# Altium schematic symbol library LL.SCHLIB: 121 symbols (part 2 of 3)
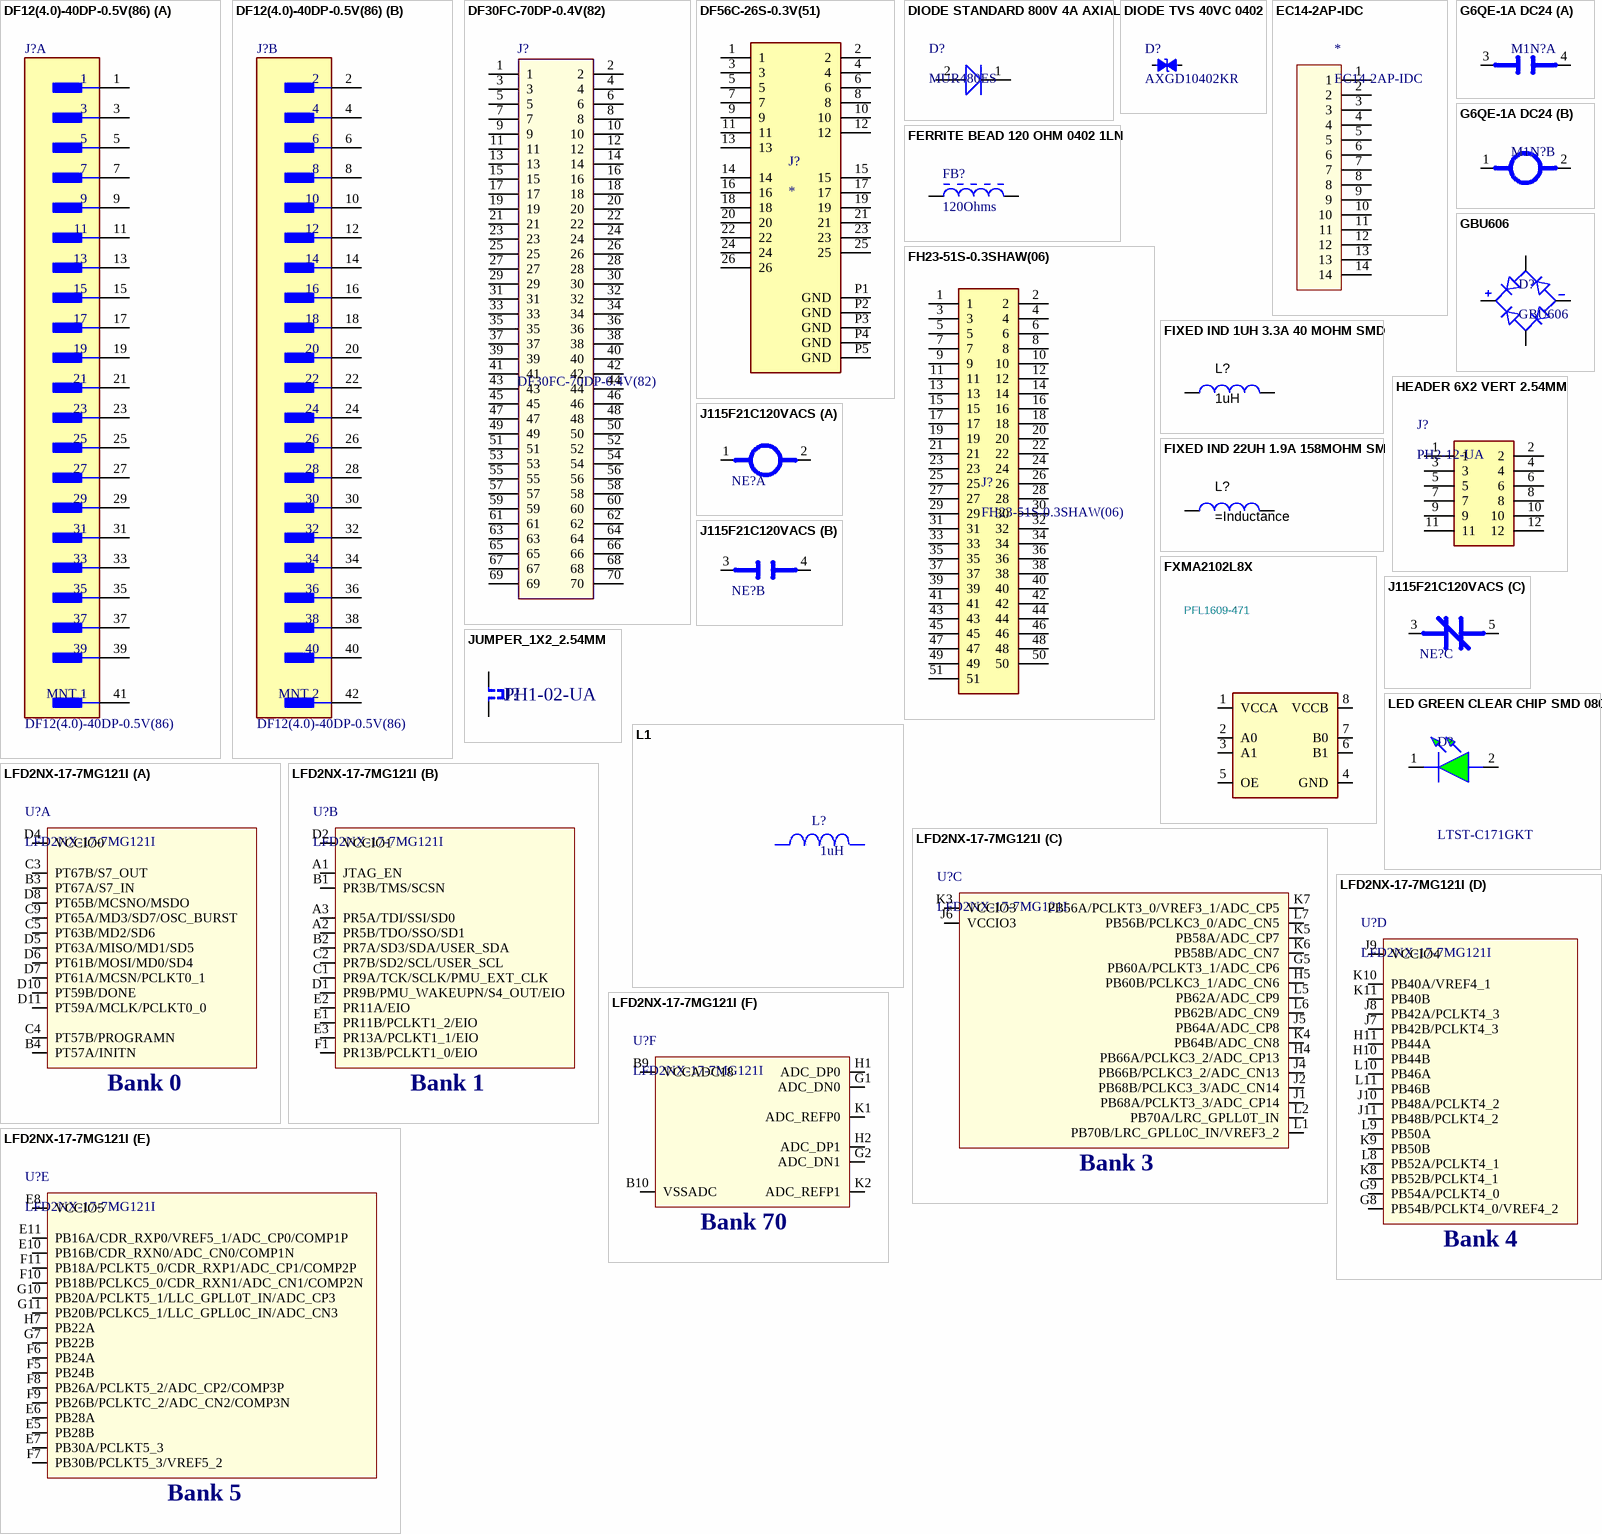
[diagram p8: symbols DF12(4.0)-40DP-0.5V(86) to LFD2NX-17-7MG121I]

## DF12(4.0)-40DP-0.5V(86)
designator J?
CONN HDR 40POS SMD GOLD; Gender: Male; Mated Stacking Heights: 4mm; Max Voltage Rating (AC): 50V; Row Spacing: 2.45mm; Number of Positions: 40; Current Rating: 300mA; Contact Resistance: 50mR; Pitch: 0.5mm; Package Quantity: 1; Housing Material: Polyamide; Lead Free: Lead Free; Packaging: Tape and Reel; Radiation Hardening: No; Orientation: Straight; Insulation Material: Nylon; Contact Material: Copper; Stack Height: 4mm; Max Operating Temperature: 125°C; Voltage Rating: 50V; Length: 13mm; Min Operating Temperature: -45°C; Mount: Surface Mount; Number of Rows: 2; Depth: 3.8mm; Contact Plating: Gold; Housing Color: Beige; REACH SVHC: No SVHC; Termination: Solder; Max Current Rating: 300mA; Number of Contacts: 40; Flammability Rating: UL94 V-0
footprint DF124040DP05V86
part A pins: 1, 3, 5, 7, 9, 11, 13, 15, 17, 19, 21, 23, 25, 27, 29, 31, 33, 35, 37, 39, 41 MNT 1
part B pins: 2, 4, 6, 8, 10, 12, 14, 16, 18, 20, 22, 24, 26, 28, 30, 32, 34, 36, 38, 40, 42 MNT 2

## DF30FC-70DP-0.4V(82)
designator J?
CONN HDR 70POS SMD GOLD; Manufacturer: Hirose Electric Co Ltd; Geometry.Height: 0.8mm; Manufacturer Part Number: DF30FC-70DP-0.4V(82); Digi-Key Part Number: DF30FC-70DP-0.4V(82)-ND; Mouser Price/Stock: https://www.mouser.com/Search/Refine.aspx?Keyword=798-DF30FC40DP0.4V82; Arrow Part Number: *; Arrow Price/Stock: *; Datasheet Link: https://eu.mouser.com/datasheet/2/185/e68410340-1168193.pdf
footprint DF30FC70DP04V82
pins: 1, 2, 3, 4, 5, 6, 7, 8, 9, 10, 11, 12, 13, 14, 15, 16, 17, 18, 19, 20, 21, 22, 23, 24, 25, 26, 27, 28, 29, 30, 31, 32, 33, 34, 35, 36, 37, 38, 39, 40, 41, 42, 43, 44, 45, 46, 47, 48, 49, 50, 51, 52, 53, 54, 55, 56, 57, 58, 59, 60, 61, 62, 63, 64, 65, 66, 67, 68, 69, 70

## DF56C-26S-0.3V(51)
designator J?
CONN RCPT 26POS 0.012 GOLD SMD; Manufacturer: Hirose Electric Co Ltd; Manufacturer Part Number: DF56C-26S-0.3V(51); Package: None; Digi-Key Part Number: DF56C-26S-0.3V(51)-ND; Availability: Unavailable
footprint DF56C-26S-0.3V(51)
pins: 1, 2, 3, 4, 5, 6, 7, 8, 9, 10, 11, 12, 13, 14, 15, 16, 17, 18, 19, 20, 21, 22, 23, 24, 25, 26, P1 GND (power), P2 GND (power), P3 GND (power), P4 GND (power), P5 GND (power)

## DIODE STANDARD 800V 4A AXIAL
designator D?, comment MUR480ES
DIODE STANDARD 800V 4A AXIAL; Manufacturer: onsemi; Manufacturer Part Number: MUR480ES; Supplier Part Number 1: 2156-MUR480ES-ND; Supplier 1: Digi-Key; Package: DO-201AA
footprint DIODE_DO-201AA
pins: 1, 2

## DIODE TVS 40VC 0402
designator D?, comment AXGD10402KR
ESD Suppressor Diode TVS Bi-Dir 24V Automotive 2-Pin Case 0402(1006Metric) T/R; Manufacturer: Littelfuse; Number of Bidirectional Channels: 1; Power Line Protection: No; Diode Type: ZENER; Supplier 1: Digikey; Supplier Part Number 1: F10019CT-ND; Manufacturer Part Number: AXGD10402KR; RoHS: Yes; Category: TVS Diodes; Stock: 44275; Pricing: 1=0.49, 10=0.356, 100=0.242, 500=0.19, 1000=0.152, 2000=0.146, 5000=0.14 (USD); Mounting Technology: Surface Mount; Case/Package: 0402; Case Code (Imperial): 0402; Case Code (Metric): 1005; Min Operating Temperature: -65°C; Max Operating Temperature: 125°C; Packaging: Cut Tape; Series: Automotive, AEC-Q200, XTREME-GUARD™; RoHS Compliant: Yes; ComponentLink1URL: https://media.digikey.com/pdf/Data%20Sheets/Littelfuse%20PDFs/AXGD1_Series.pdf?src-supplier=Digikey; ComponentLink1Description: https://media.digikey.com/pdf/Data%20Sheets/Littelfuse%20PDFs/AXGD1_Series.pdf?src-supplier=Digikey; ComponentLink2URL: https://datasheet.octopart.com/AXGD10402KR-Littelfuse-datasheet-102879905.pdf?src-supplier=Element14; ComponentLink2Description: https://datasheet.octopart.com/AXGD10402KR-Littelfuse-datasheet-102879905.pdf?src-supplier=Element14; ComponentLink3URL: https://datasheet.octopart.com/AXGD10402KR-Littelfuse-datasheet-170671804.pdf?src-supplier=Future+Electronics; ComponentLink3Description: https://datasheet.octopart.com/AXGD10402KR-Littelfuse-datasheet-170671804.pdf?src-supplier=Future+Electronics
footprint D_0402_1005Metric
pins: 1 C, 2 A

## EC14-2AP-IDC
designator *
Manufacturer: TAG-CONNECT; Manufacturer Part Number: EC14-2AP-IDC
footprint EC14-2AP
pins: 1, 2, 3, 4, 5, 6, 7, 8, 9, 10, 11, 12, 13, 14

## FERRITE BEAD 120 OHM 0402 1LN
designator FB?, comment 120Ohms
FERRITE BEAD 120 OHM 0402 1LN; Manufacturer Part Number: BLM15AG121SN1D; Manufacturer: Murata Electronics; Supplier Part Number 1: 490-1005-2-ND; Package: 0402; Value: 120Ohms; Supplier 1: Digi-Key; Height: 0.55mm; ComponentLink1Description: New link; ComponentLink1URL: *
footprint 0402_FB (Resistor, Chip; 1.00 mm L X 0.50 mm W X 0.40 mm H body)
pins: 1, 2

## FH23-51S-0.3SHAW(06)
designator J?
CONN FPC BOTTOM 51POS 0.30MM R/A; Manufacturer: Hirose Electric Co Ltd; Value: FH23-51S-0.3SHAW(06); Manufacturer Product Number: FH23-51S-0.3SHAW(06); Package: None; Price: None; Digi-Key Part Number: HFQ551TR-ND; Availability: Unavailable
footprint HRS_FH23-51S-0.3SHAW(06)
pins: 1, 2, 3, 4, 5, 6, 7, 8, 9, 10, 11, 12, 13, 14, 15, 16, 17, 18, 19, 20, 21, 22, 23, 24, 25, 26, 27, 28, 29, 30, 31, 32, 33, 34, 35, 36, 37, 38, 39, 40, 41, 42, 43, 44, 45, 46, 47, 48, 49, 50, 51

## FIXED IND 1UH 3.3A 40 MOHM SMD
designator L?, comment 1uH
Inductor Power Chip Shielded Wirewound 1uH 20% 1MHz Metal 3.3A 0.04Ohm DCR 1008 T/R; Manufacturer: Murata; Manufacturer Part Number: DFE252012F-1R0M=P2; Core Material: Ferrite; Saturation Current: 5.3A; DC Resistance (DCR): 40mR; Supplier 1: Digi-Key; RoHS: Yes; Category: Fixed Inductors; Stock 1: 280963; Pricing 1: 1=0.35000, 10=0.31500, 25=0.27560, 50=0.23640, 100=0.21660, 250=0.19696, 500=0.18514, 1000=0.14180 (USD); Mount: Surface Mount; Case/Package: 1008; Case Code (Metric): 2520; Case Code (Imperial): 1008; Min Operating Temperature: -40°C; Max Operating Temperature: 125°C; Packaging: Tape and Reel; Inductance: 1uH; Current Rating: 3.3A; Shielding: Shielded; Test Frequency: 1MHz; Tolerance: 20%; Length: 0.098inch; Width: 0.079inch; Height - Seated (Max): 0.047inch; RoHS Compliant: Yes; ComponentLink1URL: http://www.farnell.com/datasheets/2616788.pdf?src-supplier=Farnell; ComponentLink1Description: http://www.farnell.com/datasheets/2616788.pdf?src-supplier=Farnell; ComponentLink2URL: https://www.murata.com/~/media/webrenewal/products/inductor/chip/tokoproducts/wirewoundmetalalloychiptype/m_dfe252012f.ashx?src-supplier=Digi-Key; ComponentLink2Description: https://www.murata.com/~/media/webrenewal/products/inductor/chip/tokoproducts/wirewoundmetalalloychiptype/m_dfe252012f.ashx?src-supplier=Digi-Key; Supplier Part Number 1: 490-13053-1-ND
footprint DFE252012P (TOKO, Pad sizes increased as per request)
pins: 1, 2

## FIXED IND 22UH 1.9A 158MOHM SM
designator L?
Power Inductor, shielded, ferrite core, 20% tol, SMT, RoHS; Manufacturer: Coilcraft; Manufacturer Part Number: MSS6132T-223MLC; Supplier 1: Mouser; Supplier Part Number 1: 994-MSS6132T-223MLC; RoHS: Yes; Category: Fixed Inductors; Stock: 1738; Pricing: 1=2.13, 10=2.13, 50=2.13, 100=2.13, 1000=0.854, 10000=0.837 (USD); RoHS Compliant: Yes; ComponentLink1URL: https://datasheet.octopart.com/MSS6132T-223MLC-Coilcraft-datasheet-96966862.pdf?src-supplier=Coilcraft+Direct; ComponentLink1Description: https://datasheet.octopart.com/MSS6132T-223MLC-Coilcraft-datasheet-96966862.pdf?src-supplier=Coilcraft+Direct
footprint IND_MSS6132T
pins: 1, 2

## FXMA2102L8X
designator PFL1609-471  (value not drawn)
Dual Supply 2-Bit Voltage Translator/Buffer/Repeater Isolator for I2C Applications; Manufacturer: ON Semiconductor / Fairchild; Max Supply Voltage: 5.5V; Min Supply Voltage: 1.65V; Max Power Dissipation: 129mW; Propagation Delay: 1ns; Logic Function: Translator,Buffer; Turn-On Delay Time: 105ns; Low Level Output Current: 6mA; Quiescent Current: 5uA; Frequency: 50MHz; Supply Current: 2uA; Channel Type: Bidirectional; Number of Circuits: 1; Number of Inputs: 2; Supplier: Digikey; Supplier Part Number: FXMA2102L8XCT-ND; Manufacturer Part Number: FXMA2102L8X; RoHS: Yes; Category: Voltage Level Shifters; Stock: 16911; Pricing: 1=0.56, 10=0.479, 25=0.4468, 100=0.3319, 250=0.28088, 500=0.2681, 1000=0.19788, 2500=0.18511, 5000=0.17235, 10000=0.16341, 25000=0.15958, 50000=0.158 (USD); Mounting Technology: Surface Mount; Pins: 8; Weight: 0.025g; Min Operating Temperature: -40°C; Max Operating Temperature: 85°C; Package Quantity: 5000; Series: -; Packaging: Tape and Reel; Number of Outputs: 2; Length: 1.6mm; Width: 1.6mm; Height: 0.5mm; Radiation Hardening: No; Reach SVHC Compliant: No; Lead Free: Lead Free; RoHS Compliant: Yes; ComponentLink1URL: https://datasheet.ciiva.com/1783/fxma2102-1783376.pdf?src-supplier=Digikey; ComponentLink1Description: https://datasheet.ciiva.com/1783/fxma2102-1783376.pdf?src-supplier=Digikey; ComponentLink2URL: https://datasheet.ciiva.com/15096/getdatasheetpartid-491938-15096320.pdf?src-supplier=Verical; ComponentLink2Description: https://datasheet.ciiva.com/15096/getdatasheetpartid-491938-15096320.pdf?src-supplier=Verical; ComponentLink3URL: https://datasheet.ciiva.com/25628/0900766b810e24fb-25628683.pdf?src-supplier=Rs; ComponentLink3Description: https://datasheet.ciiva.com/25628/0900766b810e24fb-25628683.pdf?src-supplier=Rs; ComponentLink4URL: https://datasheet.ciiva.com/1783/fxma2102-1783375.pdf?src-supplier=Digikey; ComponentLink4Description: https://datasheet.ciiva.com/1783/fxma2102-1783375.pdf?src-supplier=Digikey; ComponentLink5URL: https://datasheet.ciiva.com/1783/fxma2102-1783377.pdf?src-supplier=Digikey; ComponentLink5Description: https://datasheet.ciiva.com/1783/fxma2102-1783377.pdf?src-supplier=Digikey; ComponentLink6URL: https://datasheet.ciiva.com/4834/fxma2102-86942-4834055.pdf?src-supplier=Mouser; ComponentLink6Description: https://datasheet.ciiva.com/4834/fxma2102-86942-4834055.pdf?src-supplier=Mouser; ComponentLink7URL: https://datasheet.ciiva.com/48702/001252902-da-01-en-translator-buff-re-fxma2102l8x-mlp-8-fsc-48702053.pdf?src-supplier=Conrad; ComponentLink7Description: https://datasheet.ciiva.com/48702/001252902-da-01-en-translator-buff-re-fxma2102l8x-mlp-8-fsc-48702053.pdf?src-supplier=Conrad
footprint MICROPAK_FXMA2102L8X
pins: 1 VCCA, 2 A0, 3 A1, 4 GND, 5 OE, 6 B1, 7 B0, 8 VCCB

## G6QE-1A DC24
designator M1N?  (value not drawn)
RELAY PWR PCB SPST-NO 32A 24VDC; Manufacturer: Omron; Copyright: Copyright (C) 2022 Ultra Librarian. All rights reserved.; Manufacturer Part Number: G6QE-1A DC24; Supplier Part Number 1: 653-G6QE-1ADC24; Supplier 1: Mouser; Type: DEV
footprint RELAY_G6QE-1A_OMR
part A pins: 3, 4
part B pins: 1, 2

## GBU606
designator D?
Diode Rectifier Bridge Single 600V 6A 4-Pin Case GBU Tube; Manufacturer: Diodes; Max Reverse Current: 5uA; Max Surge Current: 175A; Forward Voltage: 1V; Number of Elements: 1; Reverse Voltage (DC): 420V; Supplier 1: Digikey; Supplier Part Number 1: GBU606DI-ND; Manufacturer Part Number: GBU606; RoHS: Yes; Category: Rectifier Diodes; Stock: 45121; Pricing: 1=1.31, 20=0.7325, 100=0.6094 (USD); Mounting Technology: Through Hole; Pins: 4; Weight: 0.120073oz; Min Operating Temperature: -55°C; Max Operating Temperature: 150°C; Packaging: Rail/Tube; Forward Current: 6A; Max Repetitive Reverse Voltage (Vrrm): 600V; Package Quantity: 20; Average Rectified Current: 6A; Series: -; Peak Non-Repetitive Surge Current: 175A; Termination: Through Hole; Length: 22.3mm; Width: 3.56mm; Height: 18.8mm; Radiation Hardening: No; RoHS Compliant: Yes; Lead Free: Lead Free; ComponentLink1URL: https://datasheet.ciiva.com/886/ds21226-886825.pdf?src-supplier=Digikey; ComponentLink1Description: https://datasheet.ciiva.com/886/ds21226-886825.pdf?src-supplier=Digikey; ComponentLink2URL: https://datasheet.ciiva.com/11196/ds21226-11196296.pdf?src-supplier=Avnet; ComponentLink2Description: https://datasheet.ciiva.com/11196/ds21226-11196296.pdf?src-supplier=Avnet; ComponentLink3URL: https://datasheet.ciiva.com/16467/ds21226-16467529.pdf?src-supplier=Future+Electronics; ComponentLink3Description: https://datasheet.ciiva.com/16467/ds21226-16467529.pdf?src-supplier=Future+Electronics
footprint SIP343W114P508L2205H2134Q4
pins: AC1, AC2, NEG, POS

## HEADER 6X2 VERT 2.54MM
designator J?, comment PH2-12-UA
Conn Unshrouded Header HDR 12 POS 2.54mm Solder ST Top Entry Thru-Hole Bag; Manufacturer: Adam Equipment; Supplier 1: Digikey; Supplier Part Number 1: 2057-PH2-12-UA-ND; Manufacturer Part Number: PH2-12-UA; RoHS: No; Category: Headers and Wire Housings; Stock: 19464; Pricing: 1=0.16, 10=0.129, 100=0.1049, 500=0.09092, 1000=0.0855, 5000=0.07412, 10000=0.06971 (USD); Lead Free: Lead Free; ComponentLink1URL: https://datasheet.octopart.com/PH2-12-UA-Adam-Tech-datasheet-12510360.pdf?src-supplier=Future+Electronics; ComponentLink1Description: https://datasheet.octopart.com/PH2-12-UA-Adam-Tech-datasheet-12510360.pdf?src-supplier=Future+Electronics
footprint HDR6X2_VERT_ADAM_PH2-12-UA
pins: 1, 2, 3, 4, 5, 6, 7, 8, 9, 10, 11, 12

## J115F21C120VACS
designator NE?  (value not drawn)
RELAY UL & TUV GEN PURP SPDT 40A; Manufacturer: CIT Relay and Switch; Manufacturer Part Number: J115F21C120VACS; Supplier Part Number 1: 2449-J115F21C120VACS-ND; Supplier 1: Digi-Key; Type: DEV
footprint RELAY_J115F2
part A pins: 1 C1, 2 C2
part B pins: 3 COM, 4 NO
part C pins: 3 COM, 5 NC

## JUMPER_1X2_2.54MM
designator J?, comment PH1-02-UA
Conn Unshrouded Header HDR 2 POS 2.54mm Solder ST Top Entry Thru-Hole Bag; Manufacturer: Adam Tech; Supplier 1: Digikey; Supplier Part Number 1: 2057-PH1-02-UA-ND; Manufacturer Part Number: PH1-02-UA; RoHS: Yes; Stock: 90693; Pricing: 1=0.1, 10=0.023, 100=0.0189, 500=0.0164, 1000=0.01542, 5000=0.01337, 10000=0.01257 (USD); RoHS Compliant: Yes; ComponentLink1URL: https://datasheet.octopart.com/PH1-02-UA-Adam-Tech-datasheet-502038.pdf?src-supplier=Future+Electronics; ComponentLink1Description: https://datasheet.octopart.com/PH1-02-UA-Adam-Tech-datasheet-502038.pdf?src-supplier=Future+Electronics
footprint SIP2
pins: 1, 2

## L1
designator L?, comment 1uH
LQM32PN; Manufacturer: Murata; Manufacturer Part Number: LQM32PN; Value: 1uH; Supplier 1: Mouser
footprint XFL4015
pins: 1, 2

## LED GREEN CLEAR CHIP SMD 0805
designator D?, comment LTST-C171GKT
LED Low-Power Uni-Color Green 565nm 2.1V 2-Pin Chip LED T/R; Manufacturer: Vishay Lite-On; Lens Color: Colorless; Viewing Angle: 130°; Lens Style: Flat,Diffused,Colorless,Rectangular,Clear; Luminous Intensity: 12mcd; Forward Current: 30mA; Power Rating: 100mW; Dominant Wavelength: 569nm; Test Current: 10mA; Lens Transparency: Clear; Number of Elements: 1; Reverse Voltage: 5V; Lens Size: 1.25mm; Supplier 1: Digikey; Supplier Part Number 1: 160-1423-1-ND; Manufacturer Part Number: LTST-C171GKT; RoHS: Yes; Category: LEDs; Stock: 454900; Pricing: 1=0.22, 10=0.121, 100=0.0725, 500=0.0536, 1000=0.04781 (USD); Mounting Technology: Surface Mount; Case/Package: 0805; Pins: 2; Color: Green; Case Code (Metric): 2012; Case Code (Imperial): 0805; Min Operating Temperature: -55°C; Max Operating Temperature: 85°C; Package Quantity: 3000; Packaging: Tape and Reel; Forward Voltage: 2.1V; Illumination Color: Green; Power Dissipation: 100mW; Wavelength: 565nm; Number of LEDs: 1; Series: -; Length: 2mm; Width: 1.25mm; Height: 0.9mm; Depth: 1.25mm; Radiation Hardening: No; Lead Free: Lead Free; RoHS Compliant: Yes; ComponentLink1URL: https://datasheet.ciiva.com/2110/ltst-c171gkt-2110000.pdf?src-supplier=Digikey; ComponentLink1Description: https://datasheet.ciiva.com/2110/ltst-c171gkt-2110000.pdf?src-supplier=Digikey; ComponentLink2URL: https://datasheet.ciiva.com/11773/0900766b80dc0296-11773991.pdf?src-supplier=Rs; ComponentLink2Description: https://datasheet.ciiva.com/11773/0900766b80dc0296-11773991.pdf?src-supplier=Rs; ComponentLink3URL: https://datasheet.ciiva.com/12400/lite-on-ltst-c171gkt-190133-12400647.pdf?src-supplier=Mouser; ComponentLink3Description: https://datasheet.ciiva.com/12400/lite-on-ltst-c171gkt-190133-12400647.pdf?src-supplier=Mouser; ComponentLink4URL: https://datasheet.ciiva.com/2110/ltst-c171gkt-2110001.pdf?src-supplier=Digikey; ComponentLink4Description: https://datasheet.ciiva.com/2110/ltst-c171gkt-2110001.pdf?src-supplier=Digikey; ComponentLink5URL: https://datasheet.ciiva.com/2110/ltst-c171gkt-2110002.pdf?src-supplier=Digikey; ComponentLink5Description: https://datasheet.ciiva.com/2110/ltst-c171gkt-2110002.pdf?src-supplier=Digikey; ComponentLink6URL: https://datasheet.ciiva.com/16396/ltst-c171gkt-16396549.pdf?src-supplier=Future+Electronics; ComponentLink6Description: https://datasheet.ciiva.com/16396/ltst-c171gkt-16396549.pdf?src-supplier=Future+Electronics
footprint LEDC2012X90N
pins: 1 K, 2 A

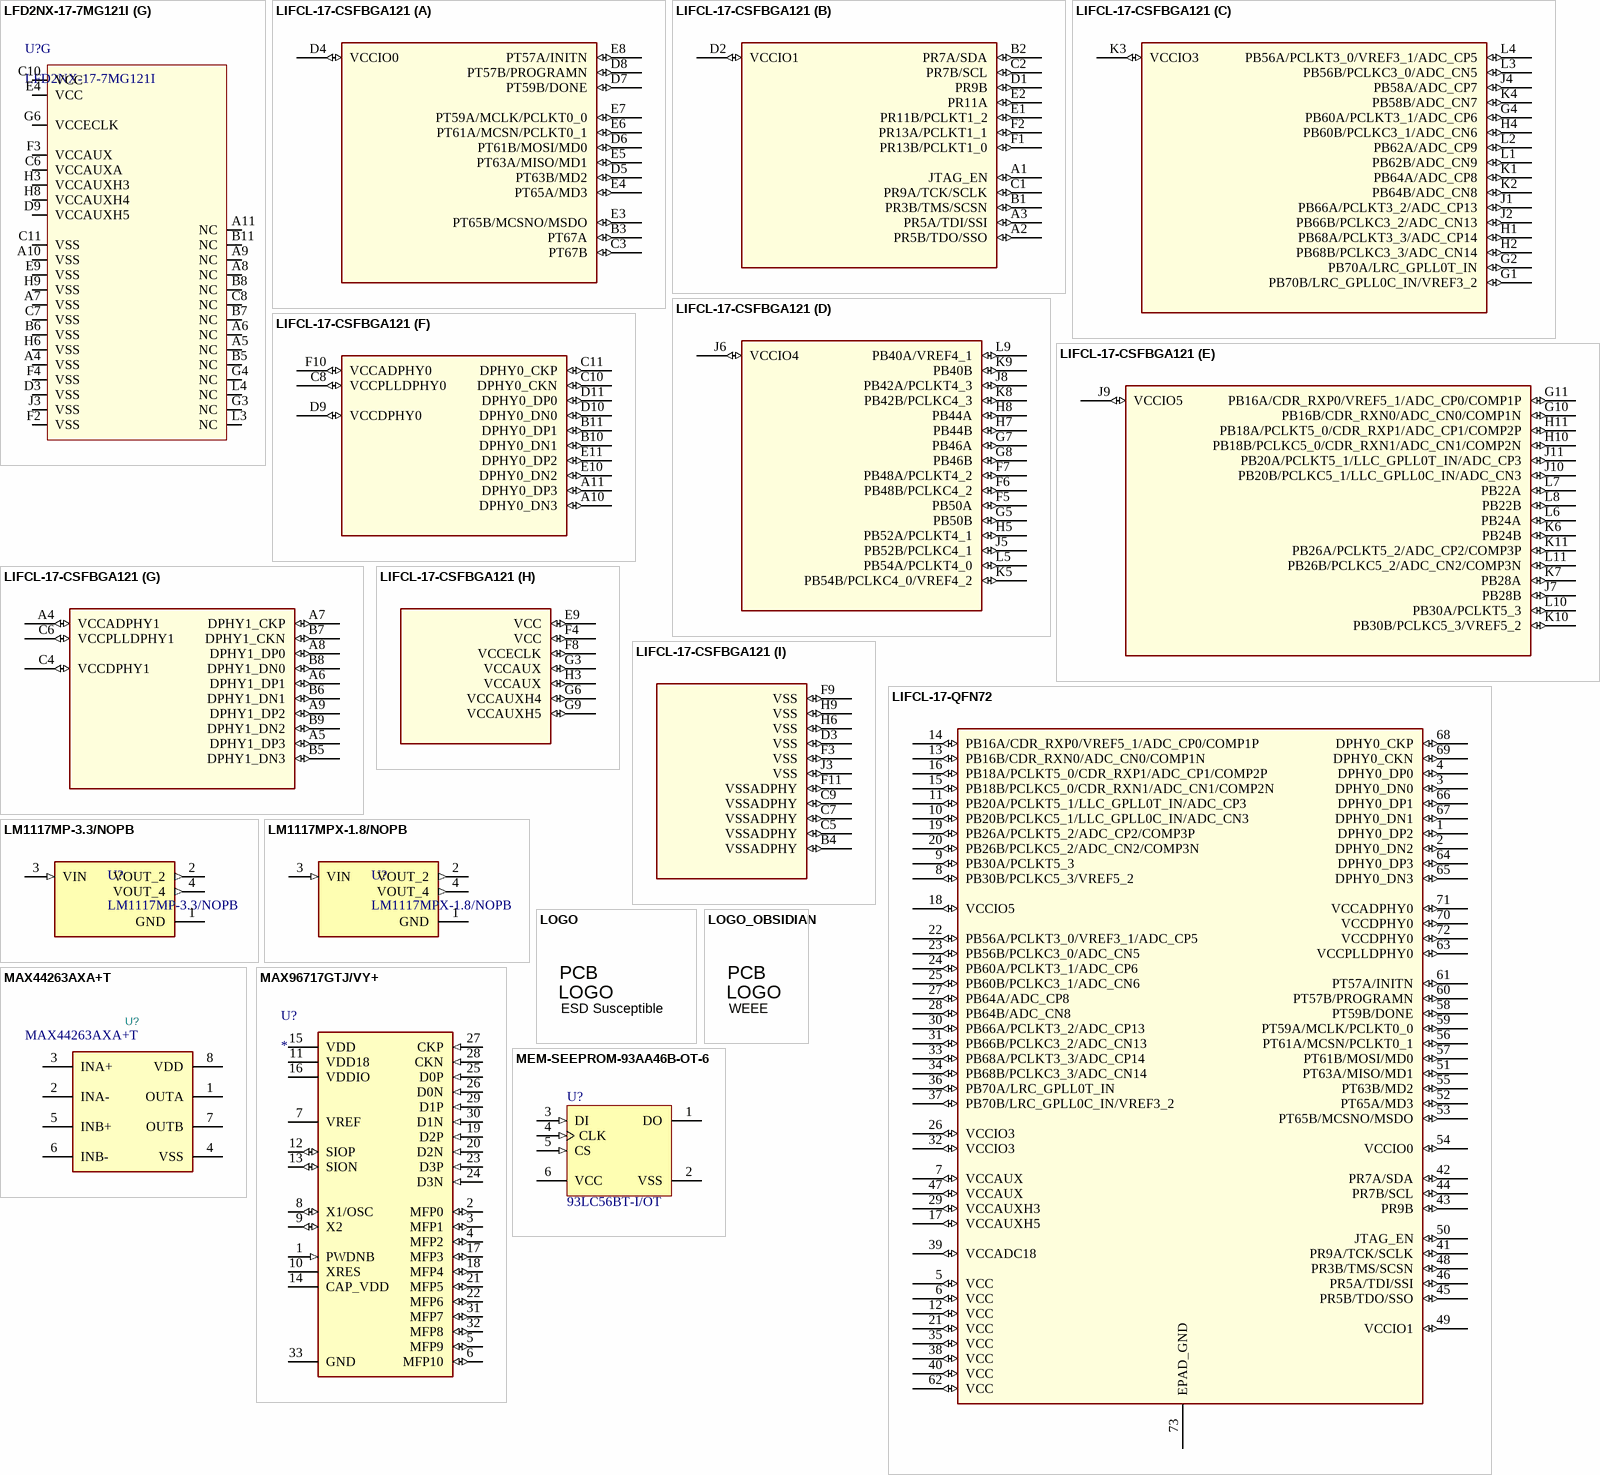
[diagram p3: symbols LFD2NX-17-7MG121I to MEM-SEEPROM-93AA46B-OT-6]

## LFD2NX-17-7MG121I
designator U?
Low-power general purpose FPGA, CSFBGA121; Manufacturer: Lattice Semiconductor; Manufacturer Part Number: LFD2NX-17-7MG121I
part A pins: B3 PT67A/S7_IN, B4 PT57A/INITN, C3 PT67B/S7_OUT, C4 PT57B/PROGRAMN, C5 PT63B/MD2/SD6, C9 PT65A/MD3/SD7/OSC_BURST, D4 VCCIO0, D5 PT63A/MISO/MD1/SD5, D6 PT61B/MOSI/MD0/SD4, D7 PT61A/MCSN/PCLKT0_1, D8 PT65B/MCSNO/MSDO, D10 PT59B/DONE, D11 PT59A/MCLK/PCLKT0_0
part B pins: A1 JTAG_EN, A2 PR5B/TDO/SSO/SD1, A3 PR5A/TDI/SSI/SD0, B1 PR3B/TMS/SCSN, B2 PR7A/SD3/SDA/USER_SDA, C1 PR9A/TCK/SCLK/PMU_EXT_CLK, C2 PR7B/SD2/SCL/USER_SCL, D1 PR9B/PMU_WAKEUPN/S4_OUT/EIO, D2 VCCIO1, E1 PR11B/PCLKT1_2/EIO, E2 PR11A/EIO, E3 PR13A/PCLKT1_1/EIO, F1 PR13B/PCLKT1_0/EIO
part C pins: G5 PB60A/PCLKT3_1/ADC_CP6, H4 PB66A/PCLKC3_2/ADC_CP13, H5 PB60B/PCLKC3_1/ADC_CN6, J1 PB68A/PCLKT3_3/ADC_CP14, J2 PB68B/PCLKC3_3/ADC_CN14, J4 PB66B/PCLKC3_2/ADC_CN13, J5 PB64A/ADC_CP8, J6 VCCIO3, K3 VCCIO3, K4 PB64B/ADC_CN8, K5 PB58A/ADC_CP7, K6 PB58B/ADC_CN7, K7 PB56A/PCLKT3_0/VREF3_1/ADC_CP5, L1 PB70B/LRC_GPLL0C_IN/VREF3_2, L2 PB70A/LRC_GPLL0T_IN, L5 PB62A/ADC_CP9, L6 PB62B/ADC_CN9, L7 PB56B/PCLKC3_0/ADC_CN5
part D pins: G8 PB54B/PCLKT4_0/VREF4_2, G9 PB54A/PCLKT4_0, H10 PB44B, H11 PB44A, J7 PB42B/PCLKT4_3, J8 PB42A/PCLKT4_3, J9 VCCIO4, J10 PB48A/PCLKT4_2, J11 PB48B/PCLKT4_2, K8 PB52B/PCLKT4_1, K9 PB50B, K10 PB40A/VREF4_1, K11 PB40B, L8 PB52A/PCLKT4_1, L9 PB50A, L10 PB46A, L11 PB46B
part E pins: E5 PB28B, E6 PB28A, E7 PB30A/PCLKT5_3, E8 VCCIO5, E10 PB16B/CDR_RXN0/ADC_CN0/COMP1N, E11 PB16A/CDR_RXP0/VREF5_1/ADC_CP0/COMP1P, F5 PB24B, F6 PB24A, F7 PB30B/PCLKT5_3/VREF5_2, F8 PB26A/PCLKT5_2/ADC_CP2/COMP3P, F9 PB26B/PCLKTC_2/ADC_CN2/COMP3N, F10 PB18B/PCLKC5_0/CDR_RXN1/ADC_CN1/COMP2N, F11 PB18A/PCLKT5_0/CDR_RXP1/ADC_CP1/COMP2P, G7 PB22B, G10 PB20A/PCLKT5_1/LLC_GPLL0T_IN/ADC_CP3, G11 PB20B/PCLKC5_1/LLC_GPLL0C_IN/ADC_CN3, H7 PB22A
part F pins: B9 VCCADC18, B10 VSSADC, G1 ADC_DN0, G2 ADC_DN1, H1 ADC_DP0, H2 ADC_DP1, K1 ADC_REFP0, K2 ADC_REFP1
part G pins: A4 VSS, A5 NC, A6 NC, A7 VSS, A8 NC, A9 NC, A10 VSS, A11 NC, B5 NC, B6 VSS, B7 NC, B8 NC, B11 NC, C6 VCCAUXA, C7 VSS, C8 NC, C10 VCC, C11 VSS, D3 VSS, D9 VCCAUXH5, E4 VCC, E9 VSS, F2 VSS, F3 VCCAUX, F4 VSS, G3 NC, G4 NC, G6 VCCECLK, H3 VCCAUXH3, H6 VSS, H8 VCCAUXH4, H9 VSS, J3 VSS, L3 NC, L4 NC
part A text: Bank 0
part B text: Bank 1
part C text: Bank 3
part D text: Bank 4
part E text: Bank 5
part F text: Bank 70

## LIFCL-17-CSFBGA121
designator U?
SPLIT_INST: TRUE; SWAP_INFO: (S1+S2+S3+S4+S5+S6+S7+S8+S9)
footprint BGA121C50P11X11_600X600X100
part A pins: B3 PT67A (io), C3 PT67B (io), D4 VCCIO0 (io), D5 PT63B/MD2 (io), D6 PT61B/MOSI/MD0 (io), D7 PT59B/DONE (io), D8 PT57B/PROGRAMN (io), E3 PT65B/MCSNO/MSDO (io), E4 PT65A/MD3 (io), E5 PT63A/MISO/MD1 (io), E6 PT61A/MCSN/PCLKT0_1 (io), E7 PT59A/MCLK/PCLKT0_0 (io), E8 PT57A/INITN (io)
part B pins: A1 JTAG_EN (io), A2 PR5B/TDO/SSO (io), A3 PR5A/TDI/SSI (io), B1 PR3B/TMS/SCSN (io), B2 PR7A/SDA (io), C1 PR9A/TCK/SCLK (io), C2 PR7B/SCL (io), D1 PR9B (io), D2 VCCIO1 (io), E1 PR11B/PCLKT1_2 (io), E2 PR11A (io), F1 PR13B/PCLKT1_0 (io), F2 PR13A/PCLKT1_1 (io)
part C pins: G1 PB70B/LRC_GPLL0C_IN/VREF3_2 (io), G2 PB70A/LRC_GPLL0T_IN (io), G4 PB60A/PCLKT3_1/ADC_CP6 (io), H1 PB68A/PCLKT3_3/ADC_CP14 (io), H2 PB68B/PCLKC3_3/ADC_CN14 (io), H4 PB60B/PCLKC3_1/ADC_CN6 (io), J1 PB66A/PCLKT3_2/ADC_CP13 (io), J2 PB66B/PCLKC3_2/ADC_CN13 (io), J4 PB58A/ADC_CP7 (io), K1 PB64A/ADC_CP8 (io), K2 PB64B/ADC_CN8 (io), K3 VCCIO3 (io), K4 PB58B/ADC_CN7 (io), L1 PB62B/ADC_CN9 (io), L2 PB62A/ADC_CP9 (io), L3 PB56B/PCLKC3_0/ADC_CN5 (io), L4 PB56A/PCLKT3_0/VREF3_1/ADC_CP5 (io)
part D pins: F5 PB50A (io), F6 PB48B/PCLKC4_2 (io), F7 PB48A/PCLKT4_2 (io), G5 PB50B (io), G7 PB46A (io), G8 PB46B (io), H5 PB52A/PCLKT4_1 (io), H7 PB44B (io), H8 PB44A (io), J5 PB52B/PCLKC4_1 (io), J6 VCCIO4 (io), J8 PB42A/PCLKT4_3 (io), K5 PB54B/PCLKC4_0/VREF4_2 (io), K8 PB42B/PCLKC4_3 (io), K9 PB40B (io), L5 PB54A/PCLKT4_0 (io), L9 PB40A/VREF4_1 (io)
part E pins: G10 PB16B/CDR_RXN0/ADC_CN0/COMP1N (io), G11 PB16A/CDR_RXP0/VREF5_1/ADC_CP0/COMP1P (io), H10 PB18B/PCLKC5_0/CDR_RXN1/ADC_CN1/COMP2N (io), H11 PB18A/PCLKT5_0/CDR_RXP1/ADC_CP1/COMP2P (io), J7 PB28B (io), J9 VCCIO5 (io), J10 PB20B/PCLKC5_1/LLC_GPLL0C_IN/ADC_CN3 (io), J11 PB20A/PCLKT5_1/LLC_GPLL0T_IN/ADC_CP3 (io), K6 PB24B (io), K7 PB28A (io), K10 PB30B/PCLKC5_3/VREF5_2 (io), K11 PB26A/PCLKT5_2/ADC_CP2/COMP3P (io), L6 PB24A (io), L7 PB22A (io), L8 PB22B (io), L10 PB30A/PCLKT5_3 (io), L11 PB26B/PCLKC5_2/ADC_CN2/COMP3N (io)
part F pins: A10 DPHY0_DN3 (io), A11 DPHY0_DP3 (io), B10 DPHY0_DN1 (io), B11 DPHY0_DP1 (io), C8 VCCPLLDPHY0 (io), C10 DPHY0_CKN (io), C11 DPHY0_CKP (io), D9 VCCDPHY0 (io), D10 DPHY0_DN0 (io), D11 DPHY0_DP0 (io), E10 DPHY0_DN2 (io), E11 DPHY0_DP2 (io), F10 VCCADPHY0 (io)
part G pins: A4 VCCADPHY1 (io), A5 DPHY1_DP3 (io), A6 DPHY1_DP1 (io), A7 DPHY1_CKP (io), A8 DPHY1_DP0 (io), A9 DPHY1_DP2 (io), B5 DPHY1_DN3 (io), B6 DPHY1_DN1 (io), B7 DPHY1_CKN (io), B8 DPHY1_DN0 (io), B9 DPHY1_DN2 (io), C4 VCCDPHY1 (io), C6 VCCPLLDPHY1 (io)
part H pins: E9 VCC (io), F4 VCC (io), F8 VCCECLK (io), G3 VCCAUX (io), G6 VCCAUXH4 (io), G9 VCCAUXH5 (io), H3 VCCAUX (io)
part I pins: B4 VSSADPHY (io), C5 VSSADPHY (io), C7 VSSADPHY (io), C9 VSSADPHY (io), D3 VSS (io), F3 VSS (io), F9 VSS (io), F11 VSSADPHY (io), H6 VSS (io), H9 VSS (io), J3 VSS (io)

## LIFCL-17-QFN72
designator U?
pins: 1 DPHY0_DP2 (io), 2 DPHY0_DN2 (io), 3 DPHY0_DN0 (io), 4 DPHY0_DP0 (io), 5 VCC (io), 6 VCC (io), 7 VCCAUX (io), 8 PB30B/PCLKC5_3/VREF5_2 (io), 9 PB30A/PCLKT5_3 (io), 10 PB20B/PCLKC5_1/LLC_GPLL0C_IN/ADC_CN3 (io), 11 PB20A/PCLKT5_1/LLC_GPLL0T_IN/ADC_CP3 (io), 12 VCC (io), 13 PB16B/CDR_RXN0/ADC_CN0/COMP1N (io), 14 PB16A/CDR_RXP0/VREF5_1/ADC_CP0/COMP1P (io), 15 PB18B/PCLKC5_0/CDR_RXN1/ADC_CN1/COMP2N (io), 16 PB18A/PCLKT5_0/CDR_RXP1/ADC_CP1/COMP2P (io), 17 VCCAUXH5 (io), 18 VCCIO5 (io), 19 PB26A/PCLKT5_2/ADC_CP2/COMP3P (io), 20 PB26B/PCLKC5_2/ADC_CN2/COMP3N (io), 21 VCC (io), 22 PB56A/PCLKT3_0/VREF3_1/ADC_CP5 (io), 23 PB56B/PCLKC3_0/ADC_CN5 (io), 24 PB60A/PCLKT3_1/ADC_CP6 (io), 25 PB60B/PCLKC3_1/ADC_CN6 (io), 26 VCCIO3 (io), 27 PB64A/ADC_CP8 (io), 28 PB64B/ADC_CN8 (io), 29 VCCAUXH3 (io), 30 PB66A/PCLKT3_2/ADC_CP13 (io), 31 PB66B/PCLKC3_2/ADC_CN13 (io), 32 VCCIO3 (io), 33 PB68A/PCLKT3_3/ADC_CP14 (io), 34 PB68B/PCLKC3_3/ADC_CN14 (io), 35 VCC (io), 36 PB70A/LRC_GPLL0T_IN (io), 37 PB70B/LRC_GPLL0C_IN/VREF3_2 (io), 38 VCC (io), 39 VCCADC18 (io), 40 VCC (io), 41 PR9A/TCK/SCLK (io), 42 PR7A/SDA (io), 43 PR9B (io), 44 PR7B/SCL (io), 45 PR5B/TDO/SSO (io), 46 PR5A/TDI/SSI (io), 47 VCCAUX (io), 48 PR3B/TMS/SCSN (io), 49 VCCIO1 (io), 50 JTAG_EN (io), 51 PT63A/MISO/MD1 (io), 52 PT65A/MD3 (io), 53 PT65B/MCSNO/MSDO (io), 54 VCCIO0 (io), 55 PT63B/MD2 (io), 56 PT61A/MCSN/PCLKT0_1 (io), 57 PT61B/MOSI/MD0 (io), 58 PT59B/DONE (io), 59 PT59A/MCLK/PCLKT0_0 (io), 60 PT57B/PROGRAMN (io), 61 PT57A/INITN (io), 62 VCC (io), 63 VCCPLLDPHY0 (io), 64 DPHY0_DP3 (io), 65 DPHY0_DN3 (io), 66 DPHY0_DP1 (io), 67 DPHY0_DN1 (io), 68 DPHY0_CKP (io), 69 DPHY0_CKN (io), 70 VCCDPHY0 (io), 71 VCCADPHY0 (io), 72 VCCDPHY0 (io), 73 EPAD_GND

## LM1117MP-3.3/NOPB
designator U?
Texas Instruments LM1117MP-3.3/NOPB. Ldo Voltage Regulator, 3.3V, 0.8A, SOT-223-4, Full Reel; Manufacturer: TI National Semiconductor; Max Supply Voltage: 15V; Dropout Voltage: 1.2V; Number of Outputs: 1; Max Output current: 800mA; Polarity: Positive; Quiescent Current: 10mA; Output Voltage Accuracy: 1%; Output Type: Fixed; Power Supply Rejection Ratio (PSRR): 75dB; Min Input Voltage: 4.75V; Supplier 1: Digikey; Supplier Part Number 1: LM1117MP-3.3/NOPBCT-ND; Manufacturer Part Number: LM1117MP-3.3/NOPB; RoHS: Yes; Category: Voltage Regulators - Linear; Stock: 63443; Pricing: 1=1.38, 10=1.007, 25=0.9128, 100=0.8093, 250=0.75996, 500=0.73016 (USD); Mounting Technology: Surface Mount; Case/Package: SOT-223; Pins: 4; Min Operating Temperature: 0°C; Max Operating Temperature: 125°C; Output Voltage: 3.3V; Packaging: Tape and Reel; Output Current: 800mA; Number of Regulators: 1; Min Current Limit: 800mA; Nominal Output Voltage: 3.3V; Accuracy: 1%; Current Rating: 800mA; Series: LM1117-3.3; Output Configuration: Positive; Max Supply Current: 10mA; Min Supply Voltage: 4.75V; Number of Channels: 1; Thickness: 1.6mm; Radiation Hardening: No; Reach SVHC Compliant: No; Lead Free: Lead Free; ComponentLink1URL: https://datasheet.ciiva.com/15111/getdatasheetpartid-112131-15111779.pdf?src-supplier=Verical; ComponentLink1Description: https://datasheet.ciiva.com/15111/getdatasheetpartid-112131-15111779.pdf?src-supplier=Verical; ComponentLink2URL: https://datasheet.ciiva.com/6580/lm1117-n-6580072.pdf?src-supplier=Digikey; ComponentLink2Description: https://datasheet.ciiva.com/6580/lm1117-n-6580072.pdf?src-supplier=Digikey; ComponentLink3URL: https://datasheet.ciiva.com/6580/lm1117-n-6580074.pdf?src-supplier=Digikey; ComponentLink3Description: https://datasheet.ciiva.com/6580/lm1117-n-6580074.pdf?src-supplier=Digikey; ComponentLink4URL: https://datasheet.ciiva.com/6580/lm1117-n-6580075.pdf?src-supplier=Digikey; ComponentLink4Description: https://datasheet.ciiva.com/6580/lm1117-n-6580075.pdf?src-supplier=Digikey; ComponentLink5URL: https://datasheet.ciiva.com/14149/lm1117-eng-tds-14149979.pdf?src-supplier=Distrelec; ComponentLink5Description: https://datasheet.ciiva.com/14149/lm1117-eng-tds-14149979.pdf?src-supplier=Distrelec
footprint SOT-223
pins: 1 GND (power), 2 VOUT_2 (out), 3 VIN (in), 4 VOUT_4 (out)

## LM1117MPX-1.8/NOPB
designator U?
800-mA 15-V linear voltage regulator ; 4-SOT-223 0 to 125; Manufacturer: TI National Semiconductor; Nominal Output Voltage: 1.8V; Output Current: 800mA; Dropout Voltage: 1.2V; Number of Outputs: 1; Max Supply Voltage: 10V; Min Supply Voltage: 3.2V; Min Input Voltage: 2.6V; Quiescent Current: 10mA; Polarity: Positive; Accuracy: 1%; Output Type: Fixed; Supplier 1: Digikey; Supplier Part Number 1: LM1117MPX-1.8/NOPBCT-ND; Manufacturer Part Number: LM1117MPX-1.8/NOPB; RoHS: Yes; Category: Voltage Regulators - Linear; Stock: 6682; Pricing: 1=1.18, 10=0.852, 25=0.7704, 100=0.681, 250=0.63828, 500=0.61254, 1000=0.59136 (USD); Mounting Technology: Surface Mount; Case/Package: SOT-223; Pins: 4; Terminal Finish: Tin; Min Operating Temperature: -40°C; Max Operating Temperature: 125°C; Packaging: Tape and Reel; Output Voltage: 1.8V; Max Output current: 800mA; Number of Regulators: 1; Min Current Limit: 800mA; Termination: SMD/SMT; Output Voltage Accuracy: 1%; Terminal Form: SMD/SMT; Moisture Sensitivity Level: 1; Length: 6.5mm; Width: 3.5mm; Height: 1.8mm; Thickness: 1.6mm; Reach SVHC Compliant: No; Lead Free: Lead Free; RoHS Compliant: Yes; ComponentLink1URL: https://datasheet.ciiva.com/34302/1282521-34302144.pdf?src-supplier=Jameco; ComponentLink1Description: https://datasheet.ciiva.com/34302/1282521-34302144.pdf?src-supplier=Jameco; ComponentLink2URL: https://datasheet.ciiva.com/6591/lm1117-n-6591863.pdf?src-supplier=Digikey; ComponentLink2Description: https://datasheet.ciiva.com/6591/lm1117-n-6591863.pdf?src-supplier=Digikey; ComponentLink3URL: https://datasheet.ciiva.com/6591/lm1117-n-6591864.pdf?src-supplier=Digikey; ComponentLink3Description: https://datasheet.ciiva.com/6591/lm1117-n-6591864.pdf?src-supplier=Digikey; ComponentLink4URL: https://datasheet.ciiva.com/6591/lm1117-n-6591865.pdf?src-supplier=Digikey; ComponentLink4Description: https://datasheet.ciiva.com/6591/lm1117-n-6591865.pdf?src-supplier=Digikey; ComponentLink5URL: https://datasheet.ciiva.com/3223/lm1117-n-3223527.pdf?src-supplier=Avnet; ComponentLink5Description: https://datasheet.ciiva.com/3223/lm1117-n-3223527.pdf?src-supplier=Avnet; ComponentLink6URL: https://datasheet.ciiva.com/46386/1882372-46386047.pdf?src-supplier=Element14; ComponentLink6Description: https://datasheet.ciiva.com/46386/1882372-46386047.pdf?src-supplier=Element14
footprint SOT-223
pins: 1 GND (power), 2 VOUT_2 (out), 3 VIN (in), 4 VOUT_4 (out)

## LOGO
designator Logo?, comment ESD Susceptible  (no BOM)
ESD Susceptible Symbol; Library Reference: Logo; SymbolCreator: a0412235; Lib Reference: ESD_Susceptible; Publisher: Texas Instruments; SymbolVersion: 2011-08-22; Published: 2009-03-03; LatestRevisionDate: 2017-07-06; PartNumber: ESD Susceptible
footprint WEEE_Minimum
footprint ESD_Overlay_Medium
text: PCB

## LOGO_OBSIDIAN
designator Logo?, comment WEEE  (no BOM)
WEEE logo; Library Reference: WEEE logo; Lib Reference: WEEE logo; PartNumber: WEEE logo
footprint LOGO_Obisidian
text: PCB; LOGO

## MAX44263AXA+T
designator U?
MAX44263 Series 5.5 V 15 MHz Rail to Rail SMT Operational Amplifier - SOT-323; Manufacturer: Maxim; Common Mode Rejection Ratio: 75dB; Number of Channels: 2; Slew Rate: 7V/µs; Min Supply Voltage: 1.8V; Max Supply Voltage: 5.5V; Voltage Gain: 115dB; Gain Bandwidth Product: 15MHz; Input Offset Voltage (Vos): 10uV; Input Bias Current: 0.01pA; Operating Supply Current: 650uA; Output Current per Channel: 50mA; Supply Current: 1uA; Amplifier Type: GENERAL PURPOSE; Supplier: Digikey; Supplier Part Number: MAX44263AXA+CT-ND; Manufacturer Part Number: MAX44263AXA+T; RoHS: Yes; Category: Amplifiers - Op Amps, Buffer, Instrumentation; Stock: 4762; Pricing: 1=4.58, 10=3.038, 25=2.6376, 100=2.1882, 250=1.96976, 500=1.83656, 1000=1.72589 (USD); Mounting Technology: Surface Mount; Case/Package: SC; Pins: 8; Min Operating Temperature: -40°C; Max Operating Temperature: 125°C; Packaging: Tape and Reel; Package Quantity: 2500; Number of Circuits: 2; Bandwidth: 15MHz; Number of Amplifiers: 2; Technology: CMOS; Series: -; RoHS Compliant: Yes; Reach SVHC Compliant: Unknown; ComponentLink1URL: https://datasheet.ciiva.com/14084/max44260-max44263-14084824.pdf?src-supplier=Digikey; ComponentLink1Description: https://datasheet.ciiva.com/14084/max44260-max44263-14084824.pdf?src-supplier=Digikey
footprint SC-70-8
pins: 1 OUTA, 2 INA-, 3 INA+, 4 VSS, 5 INB+, 6 INB-, 7 OUTB, 8 VDD

## MAX96717GTJ/VY+
designator U?
GMSL2 Compact Serializer; Manufacturer: Maxim; Manufacturer Part Number: MAX96717GTJ/VY+; Supplier 1: Digikey; Supplier Part Number 1: 505-MAX96717GTJ/VY+-ND; RoHS: No; Stock: 259; Pricing: 1=15.02, 10=10.718, 25=9.6132, 80=8.54788, 230=7.82974, 490=7.42722, 980=7.3625 (USD)
footprint QFN50P500X500X80-33N
pins: 1 PWDNB (in), 2 MFP0 (io), 3 MFP1 (io), 4 MFP2 (io), 5 MFP9 (io), 6 MFP10 (io), 7 VREF (power), 8 X1/OSC (io), 9 X2 (io), 10 XRES, 11 VDD18 (power), 12 SIOP (io), 13 SION (io), 14 CAP_VDD (power), 15 VDD (power), 16 VDDIO (power), 17 MFP3 (io), 18 MFP4 (io), 19 D2P (in), 20 D2N (in), 21 MFP5 (io), 22 MFP6 (io), 23 D3P (in), 24 D3N (in), 25 D0P (in), 26 D0N (in), 27 CKP (in), 28 CKN (in), 29 D1P (in), 30 D1N (in), 31 MFP7 (io), 32 MFP8 (io), 33 GND (power)

## MEM-SEEPROM-93AA46B-OT-6
designator U?, comment 93LC56BT-I/OT
MEM-SEEPROM-93AA46B-OT-6; DatasheetVersion: revF, May-2008; Code_IPC: SOT26A-6; PackageReference: SOT-23-OT6; PackageVersion: revBB, Aug-2009; PackageDescription: 6-Lead Plastic Small Outline Transistor (OT) [SOT-23]
footprint SOT-23-OT6_L (SOT23, 6-Leads, Body 2.9x1.6mm, Pitch 0.95mm, Lead Span 2.7mm, IPC High Density)
footprint SOT-23-OT6_N (SOT23, 6-Leads, Body 2.9x1.6mm, Pitch 0.95mm, Lead Span 2.7mm, IPC Medium Density)
footprint SOT-23-OT6_M (SOT23, 6-Leads, Body 2.9x1.6mm, Pitch 0.95mm, Lead Span 2.7mm, IPC Low Density)
footprint SOT-23-OT6_L (SOT23, 6-Leads, Body 2.9x1.7mm, Pitch 0.95mm, Lead Span 2.8mm, IPC High Density)
pins: 1 DO (hiz), 2 VSS (power), 3 DI (in), 4 CLK (in), 5 CS (in), 6 VCC (power)

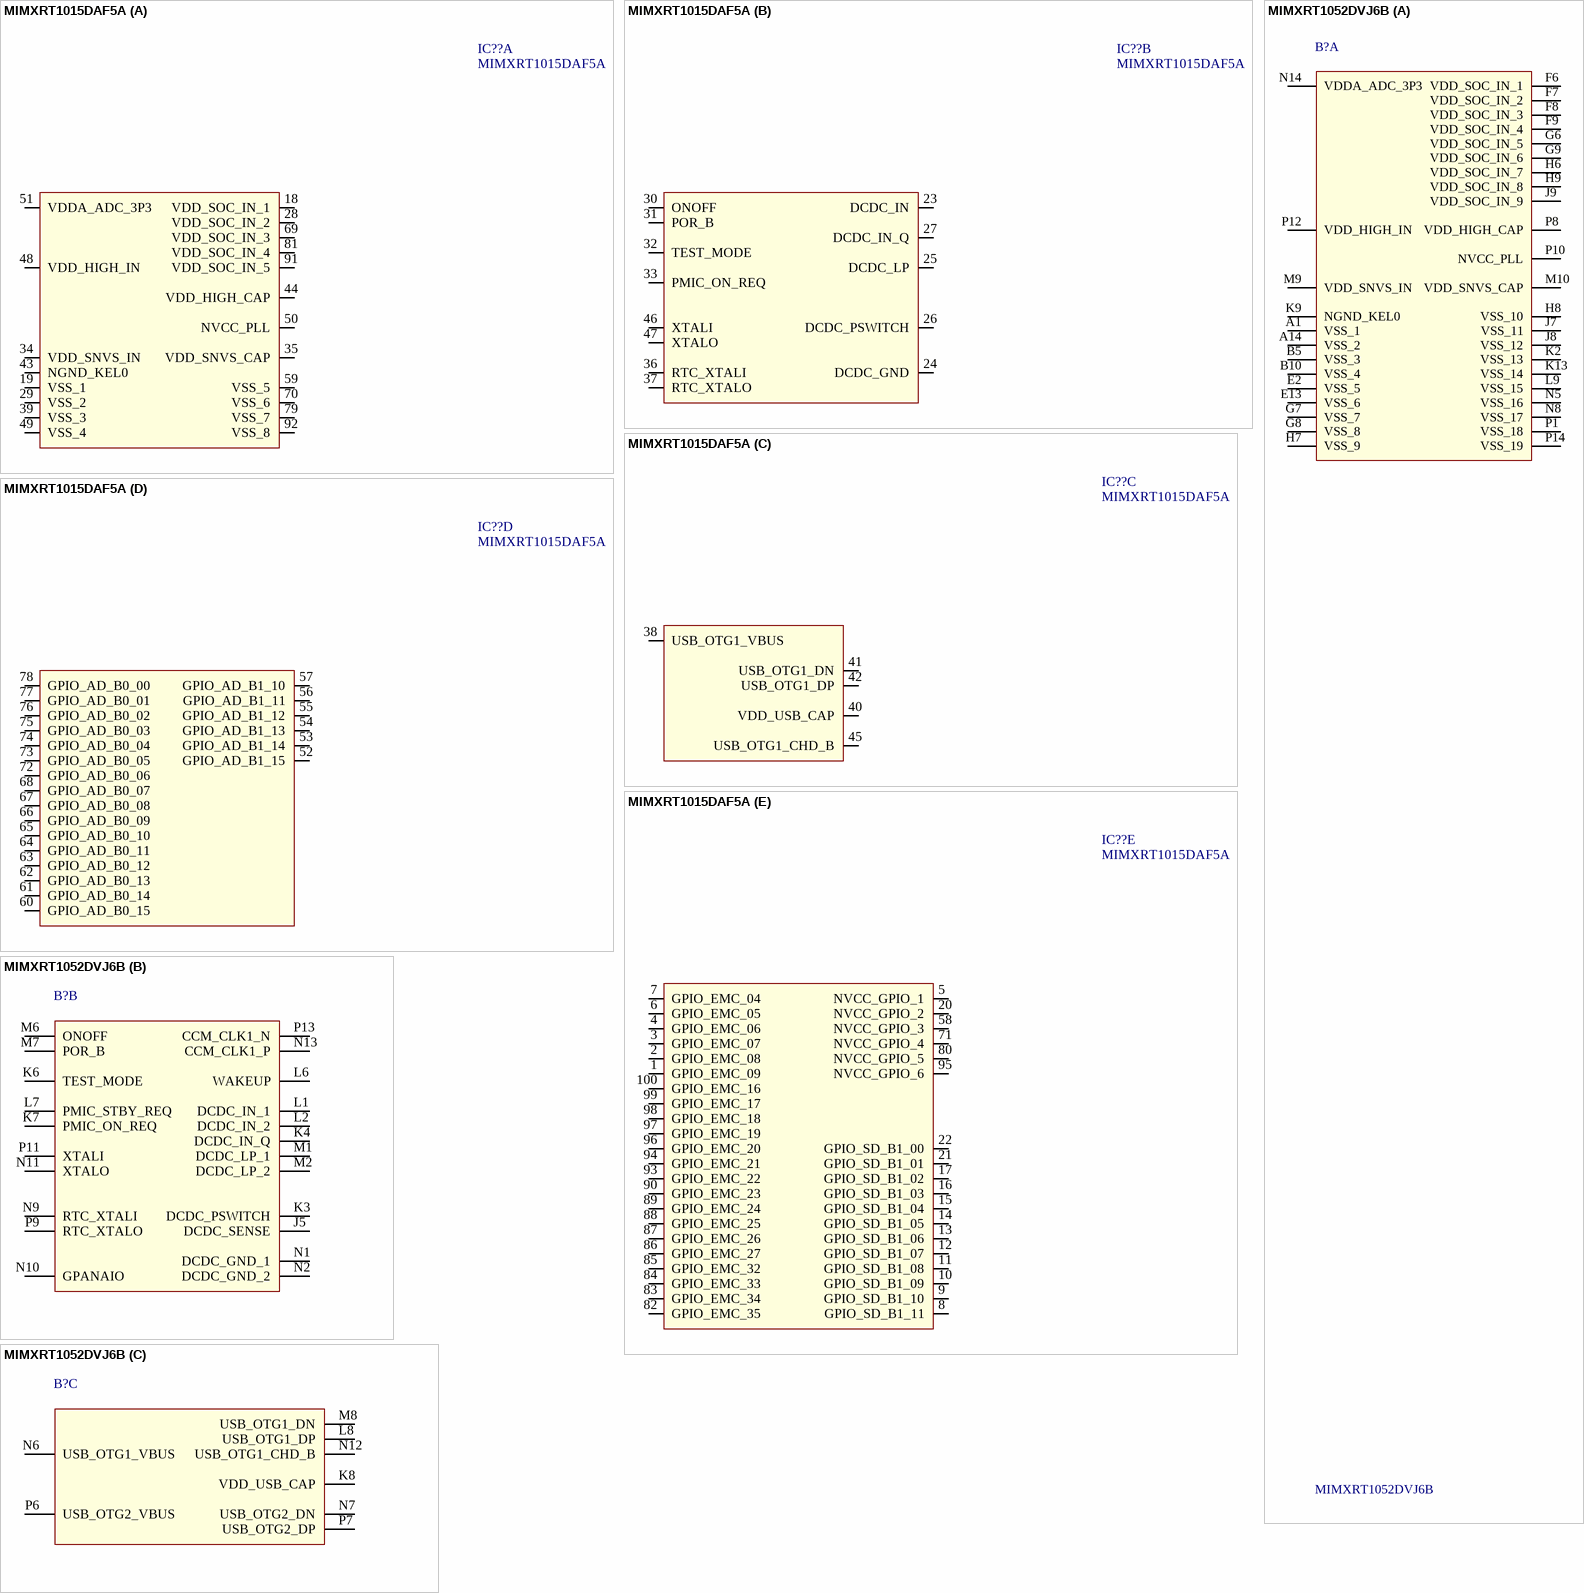
[diagram p4: symbols MIMXRT1015DAF5A to MIMXRT1052DVJ6B]

## MIMXRT1015DAF5A
designator IC??
IC MCU 32BIT EXT MEM 100LQFP; Manufacturer: NXP USA Inc.; Datasheet Link: http://www.nxp.com/docs/en/data-sheet/IMXRT1015CEC.pdf; Height: 1.7mm; Manufacturer Part Number: MIMXRT1015DAF5A; Supplier Part Number 1: 568-15304-ND; Arrow Price/Stock: https://www.arrow.com/en/products/mimxrt1015daf5a/nxp-semiconductors; Mouser Part Number: 771-MIMXRT1015DAF5A; Mouser Price/Stock: https://www.mouser.co.uk/ProductDetail/NXP-Semiconductors/MIMXRT1015DAF5A?qs=l7cgNqFNU1gQoakYaChhYw%3D%3D; Supplier 1: Digi-Key
footprint LQFP-100
part A pins: 18 VDD_SOC_IN_1, 19 VSS_1, 28 VDD_SOC_IN_2, 29 VSS_2, 34 VDD_SNVS_IN, 35 VDD_SNVS_CAP, 39 VSS_3, 43 NGND_KEL0, 44 VDD_HIGH_CAP, 48 VDD_HIGH_IN, 49 VSS_4, 50 NVCC_PLL, 51 VDDA_ADC_3P3, 59 VSS_5, 69 VDD_SOC_IN_3, 70 VSS_6, 79 VSS_7, 81 VDD_SOC_IN_4, 91 VDD_SOC_IN_5, 92 VSS_8
part B pins: 23 DCDC_IN, 24 DCDC_GND, 25 DCDC_LP, 26 DCDC_PSWITCH, 27 DCDC_IN_Q, 30 ONOFF, 31 POR_B, 32 TEST_MODE, 33 PMIC_ON_REQ, 36 RTC_XTALI, 37 RTC_XTALO, 46 XTALI, 47 XTALO
part C pins: 38 USB_OTG1_VBUS, 40 VDD_USB_CAP, 41 USB_OTG1_DN, 42 USB_OTG1_DP, 45 USB_OTG1_CHD_B
part D pins: 52 GPIO_AD_B1_15, 53 GPIO_AD_B1_14, 54 GPIO_AD_B1_13, 55 GPIO_AD_B1_12, 56 GPIO_AD_B1_11, 57 GPIO_AD_B1_10, 60 GPIO_AD_B0_15, 61 GPIO_AD_B0_14, 62 GPIO_AD_B0_13, 63 GPIO_AD_B0_12, 64 GPIO_AD_B0_11, 65 GPIO_AD_B0_10, 66 GPIO_AD_B0_09, 67 GPIO_AD_B0_08, 68 GPIO_AD_B0_07, 72 GPIO_AD_B0_06, 73 GPIO_AD_B0_05, 74 GPIO_AD_B0_04, 75 GPIO_AD_B0_03, 76 GPIO_AD_B0_02, 77 GPIO_AD_B0_01, 78 GPIO_AD_B0_00
part E pins: 1 GPIO_EMC_09, 2 GPIO_EMC_08, 3 GPIO_EMC_07, 4 GPIO_EMC_06, 5 NVCC_GPIO_1, 6 GPIO_EMC_05, 7 GPIO_EMC_04, 8 GPIO_SD_B1_11, 9 GPIO_SD_B1_10, 10 GPIO_SD_B1_09, 11 GPIO_SD_B1_08, 12 GPIO_SD_B1_07, 13 GPIO_SD_B1_06, 14 GPIO_SD_B1_05, 15 GPIO_SD_B1_04, 16 GPIO_SD_B1_03, 17 GPIO_SD_B1_02, 20 NVCC_GPIO_2, 21 GPIO_SD_B1_01, 22 GPIO_SD_B1_00, 58 NVCC_GPIO_3, 71 NVCC_GPIO_4, 80 NVCC_GPIO_5, 82 GPIO_EMC_35, 83 GPIO_EMC_34, 84 GPIO_EMC_33, 85 GPIO_EMC_32, 86 GPIO_EMC_27, 87 GPIO_EMC_26, 88 GPIO_EMC_25, 89 GPIO_EMC_24, 90 GPIO_EMC_23, 93 GPIO_EMC_22, 94 GPIO_EMC_21, 95 NVCC_GPIO_6, 96 GPIO_EMC_20, 97 GPIO_EMC_19, 98 GPIO_EMC_18, 99 GPIO_EMC_17, 100 GPIO_EMC_16

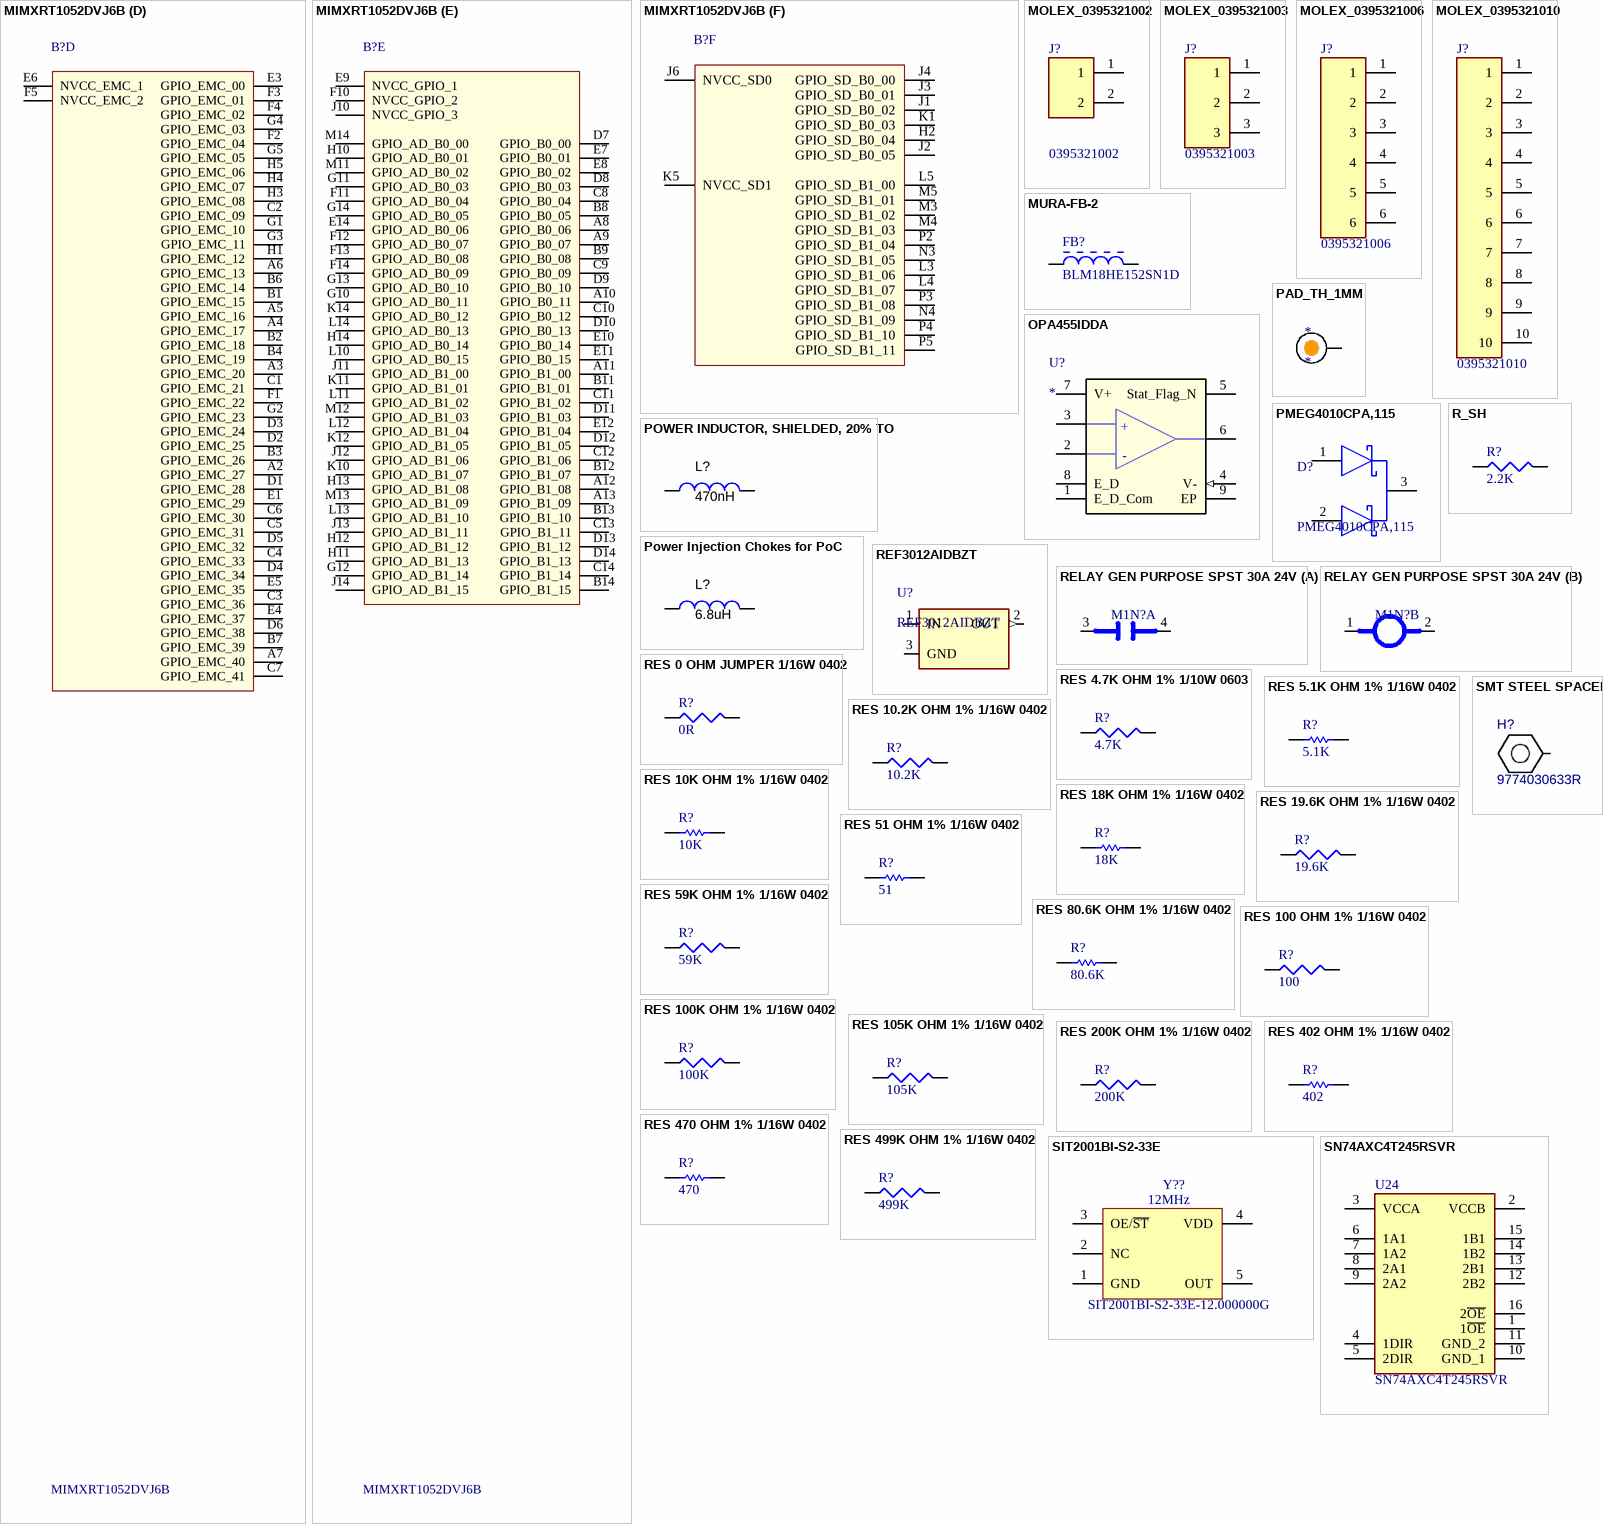
[diagram p5: symbols MIMXRT1052DVJ6B to SN74AXC4T245RSVR]

## MIMXRT1052DVJ6B
designator B?
IC MCU 32BIT EXT MEM 196MAPBGA; Manufacturer: NXP; Manufacturer Product Number: MIMXRT1052DVJ6B; Digi-Key Part Number: 568-14673-ND; Arrow Part Number: MIMXRT1052DVJ6B; Datasheet Link: http://www.nxp.com/docs/en/data-sheet/IMXRT1050CEC.pdf; Height: 1.52mm
footprint BGA196C80P14X14_1200X1200X152
part A pins: A1 VSS_1, A14 VSS_2, B5 VSS_3, B10 VSS_4, E2 VSS_5, E13 VSS_6, F6 VDD_SOC_IN_1, F7 VDD_SOC_IN_2, F8 VDD_SOC_IN_3, F9 VDD_SOC_IN_4, G6 VDD_SOC_IN_5, G7 VSS_7, G8 VSS_8, G9 VDD_SOC_IN_6, H6 VDD_SOC_IN_7, H7 VSS_9, H8 VSS_10, H9 VDD_SOC_IN_8, J7 VSS_11, J8 VSS_12, J9 VDD_SOC_IN_9, K2 VSS_13, K9 NGND_KEL0, K13 VSS_14, L9 VSS_15, M9 VDD_SNVS_IN, M10 VDD_SNVS_CAP, N5 VSS_16, N8 VSS_17, N14 VDDA_ADC_3P3, P1 VSS_18, P8 VDD_HIGH_CAP, P10 NVCC_PLL, P12 VDD_HIGH_IN, P14 VSS_19
part B pins: J5 DCDC_SENSE, K3 DCDC_PSWITCH, K4 DCDC_IN_Q, K6 TEST_MODE, K7 PMIC_ON_REQ, L1 DCDC_IN_1, L2 DCDC_IN_2, L6 WAKEUP, L7 PMIC_STBY_REQ, M1 DCDC_LP_1, M2 DCDC_LP_2, M6 ONOFF, M7 POR_B, N1 DCDC_GND_1, N2 DCDC_GND_2, N9 RTC_XTALI, N10 GPANAIO, N11 XTALO, N13 CCM_CLK1_P, P9 RTC_XTALO, P11 XTALI, P13 CCM_CLK1_N
part C pins: K8 VDD_USB_CAP, L8 USB_OTG1_DP, M8 USB_OTG1_DN, N6 USB_OTG1_VBUS, N7 USB_OTG2_DN, N12 USB_OTG1_CHD_B, P6 USB_OTG2_VBUS, P7 USB_OTG2_DP
part D pins: A2 GPIO_EMC_27, A3 GPIO_EMC_20, A4 GPIO_EMC_17, A5 GPIO_EMC_16, A6 GPIO_EMC_13, A7 GPIO_EMC_40, B1 GPIO_EMC_15, B2 GPIO_EMC_18, B3 GPIO_EMC_26, B4 GPIO_EMC_19, B6 GPIO_EMC_14, B7 GPIO_EMC_39, C1 GPIO_EMC_21, C2 GPIO_EMC_09, C3 GPIO_EMC_36, C4 GPIO_EMC_33, C5 GPIO_EMC_31, C6 GPIO_EMC_30, C7 GPIO_EMC_41, D1 GPIO_EMC_28, D2 GPIO_EMC_25, D3 GPIO_EMC_24, D4 GPIO_EMC_34, D5 GPIO_EMC_32, D6 GPIO_EMC_38, E1 GPIO_EMC_29, E3 GPIO_EMC_00, E4 GPIO_EMC_37, E5 GPIO_EMC_35, E6 NVCC_EMC_1, F1 GPIO_EMC_22, F2 GPIO_EMC_04, F3 GPIO_EMC_01, F4 GPIO_EMC_02, F5 NVCC_EMC_2, G1 GPIO_EMC_10, G2 GPIO_EMC_23, G3 GPIO_EMC_11, G4 GPIO_EMC_03, G5 GPIO_EMC_05, H1 GPIO_EMC_12, H3 GPIO_EMC_08, H4 GPIO_EMC_07, H5 GPIO_EMC_06
part E pins: A8 GPIO_B0_06, A9 GPIO_B0_07, A10 GPIO_B0_11, A11 GPIO_B1_00, A12 GPIO_B1_08, A13 GPIO_B1_09, B8 GPIO_B0_05, B9 GPIO_B0_08, B11 GPIO_B1_01, B12 GPIO_B1_07, B13 GPIO_B1_10, B14 GPIO_B1_15, C8 GPIO_B0_04, C9 GPIO_B0_09, C10 GPIO_B0_12, C11 GPIO_B1_02, C12 GPIO_B1_06, C13 GPIO_B1_11, C14 GPIO_B1_14, D7 GPIO_B0_00, D8 GPIO_B0_03, D9 GPIO_B0_10, D10 GPIO_B0_13, D11 GPIO_B1_03, D12 GPIO_B1_05, D13 GPIO_B1_12, D14 GPIO_B1_13, E7 GPIO_B0_01, E8 GPIO_B0_02, E9 NVCC_GPIO_1, E10 GPIO_B0_14, E11 GPIO_B0_15, E12 GPIO_B1_04, E14 GPIO_AD_B0_06, F10 NVCC_GPIO_2, F11 GPIO_AD_B0_04, F12 GPIO_AD_B0_07, F13 GPIO_AD_B0_08, F14 GPIO_AD_B0_09, G10 GPIO_AD_B0_11, G11 GPIO_AD_B0_03, G12 GPIO_AD_B1_14, G13 GPIO_AD_B0_10, G14 GPIO_AD_B0_05, H10 GPIO_AD_B0_01, H11 GPIO_AD_B1_13, H12 GPIO_AD_B1_12, H13 GPIO_AD_B1_08, H14 GPIO_AD_B0_14, J10 NVCC_GPIO_3, J11 GPIO_AD_B1_00, J12 GPIO_AD_B1_06, J13 GPIO_AD_B1_11, J14 GPIO_AD_B1_15, K10 GPIO_AD_B1_07, K11 GPIO_AD_B1_01, K12 GPIO_AD_B1_05, K14 GPIO_AD_B0_12, L10 GPIO_AD_B0_15, L11 GPIO_AD_B1_02, L12 GPIO_AD_B1_04, L13 GPIO_AD_B1_10, L14 GPIO_AD_B0_13, M11 GPIO_AD_B0_02, M12 GPIO_AD_B1_03, M13 GPIO_AD_B1_09, M14 GPIO_AD_B0_00
part F pins: H2 GPIO_SD_B0_04, J1 GPIO_SD_B0_02, J2 GPIO_SD_B0_05, J3 GPIO_SD_B0_01, J4 GPIO_SD_B0_00, J6 NVCC_SD0, K1 GPIO_SD_B0_03, K5 NVCC_SD1, L3 GPIO_SD_B1_06, L4 GPIO_SD_B1_07, L5 GPIO_SD_B1_00, M3 GPIO_SD_B1_02, M4 GPIO_SD_B1_03, M5 GPIO_SD_B1_01, N3 GPIO_SD_B1_05, N4 GPIO_SD_B1_09, P2 GPIO_SD_B1_04, P3 GPIO_SD_B1_08, P4 GPIO_SD_B1_10, P5 GPIO_SD_B1_11

## MOLEX_0395321002
designator J?, comment 0395321002
TERM BLOCK HDR 2POS 90DEG 5.08MM; Manufacturer: Molex; Manufacturer Part Number: 0395321002; Supplier Part Number 1: WM7845-ND; Package: None; Supplier 1: Digi-Key; Value: 0395321002
footprint HDR1X2_MOLEX_TERMINAL
pins: 1, 2

## MOLEX_0395321003
designator J?, comment 0395321003
TERM BLOCK HDR 3POS 90DEG 5.08MM; Manufacturer: Molex; Manufacturer Part Number: 0395321003; Supplier Part Number 1: WM7846-ND; Package: None; Supplier 1: Digi-Key; Value: 0395321003
footprint HDR1X3_MOLEX_TERMINAL
pins: 1, 2, 3

## MOLEX_0395321006
designator J?, comment 0395321006
TERM BLOCK HDR 6POS 90DEG 5.08MM; Manufacturer: Molex; Manufacturer Part Number: 0395321006; Supplier Part Number 1: 900-0395321006-ND; Package: None; Supplier 1: Digi-Key; Value: 0395321006
footprint HDR1X6_MOLEX_TERMINAL
pins: 1, 2, 3, 4, 5, 6

## MOLEX_0395321010
designator J?, comment 0395321010
TERM BLOCK HDR 10POS 5.08MM; Manufacturer: Molex; Manufacturer Part Number: 0395321010; Supplier Part Number 1: WM7851-ND; Package: None; Supplier 1: Digi-Key; Value: 0395321010
footprint HDR1X10_MOLEX_TERMINAL
pins: 1, 2, 3, 4, 5, 6, 7, 8, 9, 10

## MURA-FB-2
designator FB?, comment BLM18HE152SN1D
FERRITE BEAD 1.5 KOHM 0603 1LN; Manufacturer: Murata; Value: 1.5 kOhms; Supplier Part Number 1: 490-5216-1-ND; Manufacturer Part Number: BLM18HE152SN1D; Package: 0603; Supplier 1: Digi-Key; Height: 0.95mm; ComponentLink1Description: New link; ComponentLink1URL: *
footprint 0603_FB (0603 (1608) Ferrite Bead)
footprint MURA-BLM18-F-H1-CHIP-2_V (Chip Ferrite Bead, 2-Leads, Body 1.6x0.8mm, Height 0.95mm, Flow)
pins: 1, 2

## OPA455IDDA
designator U?
No Description Available; Mfr_Name: Texas Instruments; TYPE: TYPE; RefDes: RefDes
footprint 8-PowerSOIC
pins: 1 E_D_Com, 2 -IN, 3 +IN, 4 V- (in), 5 Stat_Flag_N (hiz), 6 OUT (hiz), 7 V+ (power), 8 E_D (oc), 9 EP
text: +; -

## PAD_TH_1MM
designator *  (no BOM)
Through Hole PAD 1mm
footprint PAD TH 1mm (Through Hole PAD 1mm)
pins: 1

## PMEG4010CPA,115
designator D?
Schottky Diode; Manufacturer_Name: Nexperia; Datasheet Link: https://assets.nexperia.com/documents/data-sheet/PMEG4010CPA.pdf; Manufacturer_Part_Number: PMEG4010CPA,115; Mouser Part Number: 771-PMEG4010CPA115; Mouser Price/Stock: https://www.mouser.co.uk/ProductDetail/Nexperia/PMEG4010CPA115?qs=O%2F7ihdSJpea%252BrtmRoPSGEg%3D%3D; Arrow Part Number: PMEG4010CPA,115; Arrow Price/Stock: https://www.arrow.com/en/products/pmeg4010cpa115/nexperia
footprint BC5216PAS
pins: 1 A_1, 2 A_2, 3 COM_CATHODE

## POWER INDUCTOR, SHIELDED, 20% TO
designator L?, comment 470nH
Power inductor, shielded, 20% tol, SMT, RoHS, halogen f; Manufacturer: Coilcraft; Manufacturer Part Number: PFL1609-471MEW; Core Material: Composite; Self Resonant Frequency: 650MHz; Max DC Current: 1.3A; Test Frequency: 7.9MHz; Supplier 1: Mouser; Supplier Part Number 1: 994-PFL1609-471MEW; RoHS: Yes; Category: Fixed Inductors; Stock: 2458; Pricing: 1=0.72, 10=0.72, 50=0.72, 100=0.7, 1000=0.536, 10000=0.515 (USD); Min Operating Temperature: -40°C; Max Operating Temperature: 85°C; Packaging: Tape and Reel; Tolerance: 20%; Shielding: Shielded; Value: 470nH; Termination: SMD/SMT; Series: PFL1609; Length: 1.8mm; Width: 1.07mm; Height: 0.95mm; Lead Free: Contains Lead; RoHS Compliant: Yes; ComponentLink1URL: http://www.mouser.com/ds/2/597/pfl1609-270712.pdf?src-supplier=Mouser; ComponentLink1Description: http://www.mouser.com/ds/2/597/pfl1609-270712.pdf?src-supplier=Mouser
footprint PFL1609471MEW
pins: 1, 2

## Power Injection Chokes for PoC
designator L?, comment 6.8uH
Power Injection Chokes for PoC 6.8uH/1A; Manufacturer: Coilcraft; Manufacturer Part Number: 1210POC-682; RoHS: Yes; Category: Fixed Inductors; RoHS Compliant: Yes; Inductance: 6.8uH
footprint IND_1210POC
pins: 1, 2

## R_SH
designator R?, comment 2.2K
RESISTOR 2.2K OHM 1%
footprint RESC1608N
footprint RESC1005N
footprint RESC1005X40N
footprint R0603
pins: 1, 2

## REF3012AIDBZT
designator U?
1.25V 50ppm/Degrees C, 50uA in SOT23-3 Series (Bandgap) Voltage Reference 3-SOT-23 -40 to 125; Manufacturer: Texas Instruments; Max Supply Voltage: 5.5V; Max Output current: 25mA; Min Input Voltage: 1.8V; Tolerance: 0.2%; Temperature Coefficient: 50ppm/°C; Min Output Voltage: 1.248V; Reference Type: Series,Fixed; Supply Current: 42uA; Number of Channels: 1; Supplier 1: Digikey; Supplier Part Number 1: REF3012AIDBZTCT-ND; Manufacturer Part Number: REF3012AIDBZT; RoHS: Yes; Category: Voltage References; Stock: 4243; Pricing: 1=1.29, 10=0.94, 25=0.8516, 100=0.754, 250=0.70748, 500=0.67942, 750=0.66537, 1250=0.64981, 1750=0.6407, 2500=0.63196, 6250=0.61311, 12500=0.60176 (USD); Case/Package: SOT-23; Pins: 3; Min Operating Temperature: -40°C; Max Operating Temperature: 125°C; Packaging: Tape and Reel; Output Voltage: 1.25V; Package Quantity: 1; Quiescent Current: 50uA; Output Current: 25mA; Max Supply Current: 50uA; Reference Voltage: 1.25V; Termination: SMD/SMT; Series: -; Max Output Voltage: 1.25V; Length: 2.92mm; Width: 1.3mm; Height: 1mm; Radiation Hardening: No; Reach SVHC Compliant: No; Lead Free: Lead Free; RoHS Compliant: Yes; ComponentLink1URL: https://datasheet.ciiva.com/2007/ref3012-2007153.pdf?src-supplier=Digikey; ComponentLink1Description: https://datasheet.ciiva.com/2007/ref3012-2007153.pdf?src-supplier=Digikey; ComponentLink2URL: https://datasheet.ciiva.com/2007/ref3012-2007154.pdf?src-supplier=Digikey; ComponentLink2Description: https://datasheet.ciiva.com/2007/ref3012-2007154.pdf?src-supplier=Digikey; ComponentLink3URL: https://datasheet.ciiva.com/2007/ref3012-2007155.pdf?src-supplier=Digikey; ComponentLink3Description: https://datasheet.ciiva.com/2007/ref3012-2007155.pdf?src-supplier=Digikey; ComponentLink4URL: https://datasheet.ciiva.com/3235/ref3033-3235533.pdf?src-supplier=Avnet; ComponentLink4Description: https://datasheet.ciiva.com/3235/ref3033-3235533.pdf?src-supplier=Avnet; ComponentLink5URL: https://datasheet.ciiva.com/3235/ref3033-3235534.pdf?src-supplier=Avnet; ComponentLink5Description: https://datasheet.ciiva.com/3235/ref3033-3235534.pdf?src-supplier=Avnet
footprint SOT-23
pins: 1 IN (power), 2 OUT (out), 3 GND

## RELAY GEN PURPOSE SPST 30A 24V
designator M1N?, comment T9AS1D12-24  (value not drawn)
RELAY PWR PCB SPST-NO 32A 24VDC; Manufacturer: TE Connectivity Potter & Brumfield Relays; Copyright: Copyright (C) 2022 Ultra Librarian. All rights reserved.; Manufacturer Part Number: T9AS1D12-24; Supplier Part Number 1: PB303-ND; Supplier 1: Digi-Key; Type: DEV
footprint RELAY_TE_T9AS1D12-24
part A pins: 3, 4
part B pins: 1, 2

## RES 0 OHM JUMPER 1/16W 0402
designator R?, comment 0R
RES 0 OHM JUMPER 1/16W 0402; Manufacturer Part Number: RC0402JR-070RL; Manufacturer: YAGEO; Supplier Part Number 1: 311-0.0JRCT-ND; Supplier 1: Digi-Key; Height: 0.4mm; Package: 0402; value: 0R
footprint RESC1005X40USR (Resistor, Chip; 1.00 mm L X 0.50 mm W X 0.40 mm H body)
pins: 1, 2

## RES 4.7K OHM 1% 1/10W 0603
designator R?, comment 4.7K
RES 4.7K OHM 1% 1/10W 0603; Manufacturer Part Number: RC0603FR-074K7L; Manufacturer: YAGEO; Supplier Part Number 1: 311-4.70KHRCT-ND; Supplier 1: Digi-Key; Height: 0.55mm; Package: 0603; value: 4.7K
footprint RESC1607X60N
pins: 1, 2

## RES 5.1K OHM 1% 1/16W 0402
designator R?, comment 5.1K
RES 5.1K OHM 1% 1/16W 0402; Manufacturer Part Number: RC0402FR-075K1L; Manufacturer: YAGEO; Supplier Part Number 1: 311-5.10KLRCT-ND; Supplier 1: Digi-Key; Height: 0.4mm; Package: 0402; value: 5.1K
footprint RESC1005X40USR (Resistor, Chip; 1.00 mm L X 0.50 mm W X 0.40 mm H body)
pins: 1, 2

## RES 10.2K OHM 1% 1/16W 0402
designator R?, comment 10.2K
RES 10.2K OHM 1% 1/16W 0402; Manufacturer Part Number: RC0402FR-0710K2L; Manufacturer: YAGEO; Supplier Part Number 1: YAG2950CT-ND; Supplier 1: Digi-Key; Height: 0.4mm; Package: 0402; value: 10.2K
footprint RESC1005X40USR (Resistor, Chip; 1.00 mm L X 0.50 mm W X 0.40 mm H body)
pins: 1, 2

## RES 10K OHM 1% 1/16W 0402
designator R?, comment 10K
RES 10K OHM 1% 1/16W 0402; Manufacturer Part Number: RC0402FR-0710KL; Manufacturer: YAGEO; Supplier Part Number 1: 311-10.0KLRCT-ND; Supplier 1: Digi-Key; Height: 0.4mm; Package: 0402; value: 10K
footprint RESC1005X40USR (Resistor, Chip; 1.00 mm L X 0.50 mm W X 0.40 mm H body)
pins: 1, 2

## RES 18K OHM 1% 1/16W 0402
designator R?, comment 18K
RES 18K OHM 1% 1/16W 0402; Manufacturer Part Number: RC0402FR-0718KL; Manufacturer: YAGEO; Supplier Part Number 1: 311-18.0KLRCT-ND; Supplier 1: Digi-Key; Height: 0.4mm; Package: 0402; value: 18K
footprint RESC1005X40USR (Resistor, Chip; 1.00 mm L X 0.50 mm W X 0.40 mm H body)
pins: 1, 2

## RES 19.6K OHM 1% 1/16W 0402
designator R?, comment 19.6K
RES 19.6K OHM 1% 1/16W 0402; Manufacturer Part Number: RC0402FR-1319K6L; Manufacturer: YAGEO; Supplier Part Number 1: 13-RC0402FR-1319K6LCT-ND; Supplier 1: Digi-Key; Height: 0.4mm; Package: 0402; value: 19.6K
footprint RESC1005X40USR (Resistor, Chip; 1.00 mm L X 0.50 mm W X 0.40 mm H body)
pins: 1, 2

## RES 51 OHM 1% 1/16W 0402
designator R?, comment 51
RES 51 OHM 1% 1/16W 0402; Manufacturer Part Number: RC0402FR-0751RL; Manufacturer: YAGEO; Supplier Part Number 1: 311-51.0LRCT-ND; Supplier 1: Digi-Key; Height: 0.4mm; Package: 0402; value: 51
footprint RESC1005X40USR (Resistor, Chip; 1.00 mm L X 0.50 mm W X 0.40 mm H body)
pins: 1, 2

## RES 59K OHM 1% 1/16W 0402
designator R?, comment 59K
RES 59K OHM 1% 1/16W 0402; Manufacturer Part Number: RC0402FR-0759KL; Manufacturer: YAGEO; Supplier Part Number 1: 311-59KLRCT-ND; Supplier 1: Digi-Key; Height: 0.4mm; Package: 0402; value: 59K
footprint RESC1005X40USR (Resistor, Chip; 1.00 mm L X 0.50 mm W X 0.40 mm H body)
pins: 1, 2

## RES 80.6K OHM 1% 1/16W 0402
designator R?, comment 80.6K
RES 80.6K OHM 1% 1/16W 0402; Manufacturer Part Number: RC0402FR-0780K6L; Manufacturer: YAGEO; Supplier Part Number 1: 311-80.6KLRCT-ND; Supplier 1: Digi-Key; Height: 0.4mm; Package: 0402; value: 80.6K
footprint RESC1005X40USR (Resistor, Chip; 1.00 mm L X 0.50 mm W X 0.40 mm H body)
pins: 1, 2

## RES 100 OHM 1% 1/16W 0402
designator R?, comment 100
RES 100 OHM 1% 1/16W 0402; Manufacturer Part Number: RC0402FR-07100RL; Manufacturer: YAGEO; Supplier Part Number 1: 311-100LRCT-ND; Supplier 1: Digi-Key; Height: 0.4mm; Package: 0402; value: 100
footprint RESC1005X40USR (Resistor, Chip; 1.00 mm L X 0.50 mm W X 0.40 mm H body)
pins: 1, 2

## RES 100K OHM 1% 1/16W 0402
designator R?, comment 100K
RES 100K OHM 1% 1/16W 0402; Manufacturer Part Number: RC0402FR-07100KL; Manufacturer: YAGEO; Supplier Part Number 1: 311-100KLRCT-ND; Supplier 1: Digi-Key; Height: 0.4mm; Package: 0402; value: 100K
footprint RESC1005X40USR (Resistor, Chip; 1.00 mm L X 0.50 mm W X 0.40 mm H body)
pins: 1, 2

## RES 105K OHM 1% 1/16W 0402
designator R?, comment 105K
RES 105K OHM 1% 1/16W 0402; Manufacturer Part Number: RC0402FR-07105KL; Manufacturer: YAGEO; Supplier Part Number 1: YAG2946CT-ND; Supplier 1: Digi-Key; Height: 0.4mm; Package: 0402; value: 105K
footprint RESC1005X40USR (Resistor, Chip; 1.00 mm L X 0.50 mm W X 0.40 mm H body)
pins: 1, 2

## RES 200K OHM 1% 1/16W 0402
designator R?, comment 200K
RES 200K OHM 1% 1/16W 0402; Manufacturer Part Number: RC0402FR-07200KL; Manufacturer: YAGEO; Supplier Part Number 1: 311-200KLRCT-ND; Supplier 1: Digi-Key; Height: 0.4mm; Package: 0402; value: 200K
footprint RESC1005X40USR (Resistor, Chip; 1.00 mm L X 0.50 mm W X 0.40 mm H body)
pins: 1, 2

## RES 402 OHM 1% 1/16W 0402
designator R?, comment 402
RES 402 OHM 1% 1/16W 0402; Manufacturer Part Number: RC0402FR-07402RL; Manufacturer: YAGEO; Supplier Part Number 1: YAG3152CT-ND; Supplier 1: Digi-Key; Height: 0.4mm; Package: 0402; value: 402
footprint RESC1005X40USR (Resistor, Chip; 1.00 mm L X 0.50 mm W X 0.40 mm H body)
pins: 1, 2

## RES 470 OHM 1% 1/16W 0402
designator R?, comment 470
RES 470 OHM 1% 1/16W 0402; Manufacturer Part Number: RC0402FR-07470RL; Manufacturer: YAGEO; Supplier Part Number 1: 311-470LRCT-ND; Supplier 1: Digi-Key; Height: 0.4mm; Package: 0402; value: 470
footprint RESC1005X40USR (Resistor, Chip; 1.00 mm L X 0.50 mm W X 0.40 mm H body)
pins: 1, 2